# Altium schematic symbol library 常用集成电路.SchLib: 294 symbols (part 1 of 5)
Pins are listed as number, name and electrical type; pins without a type are passive.

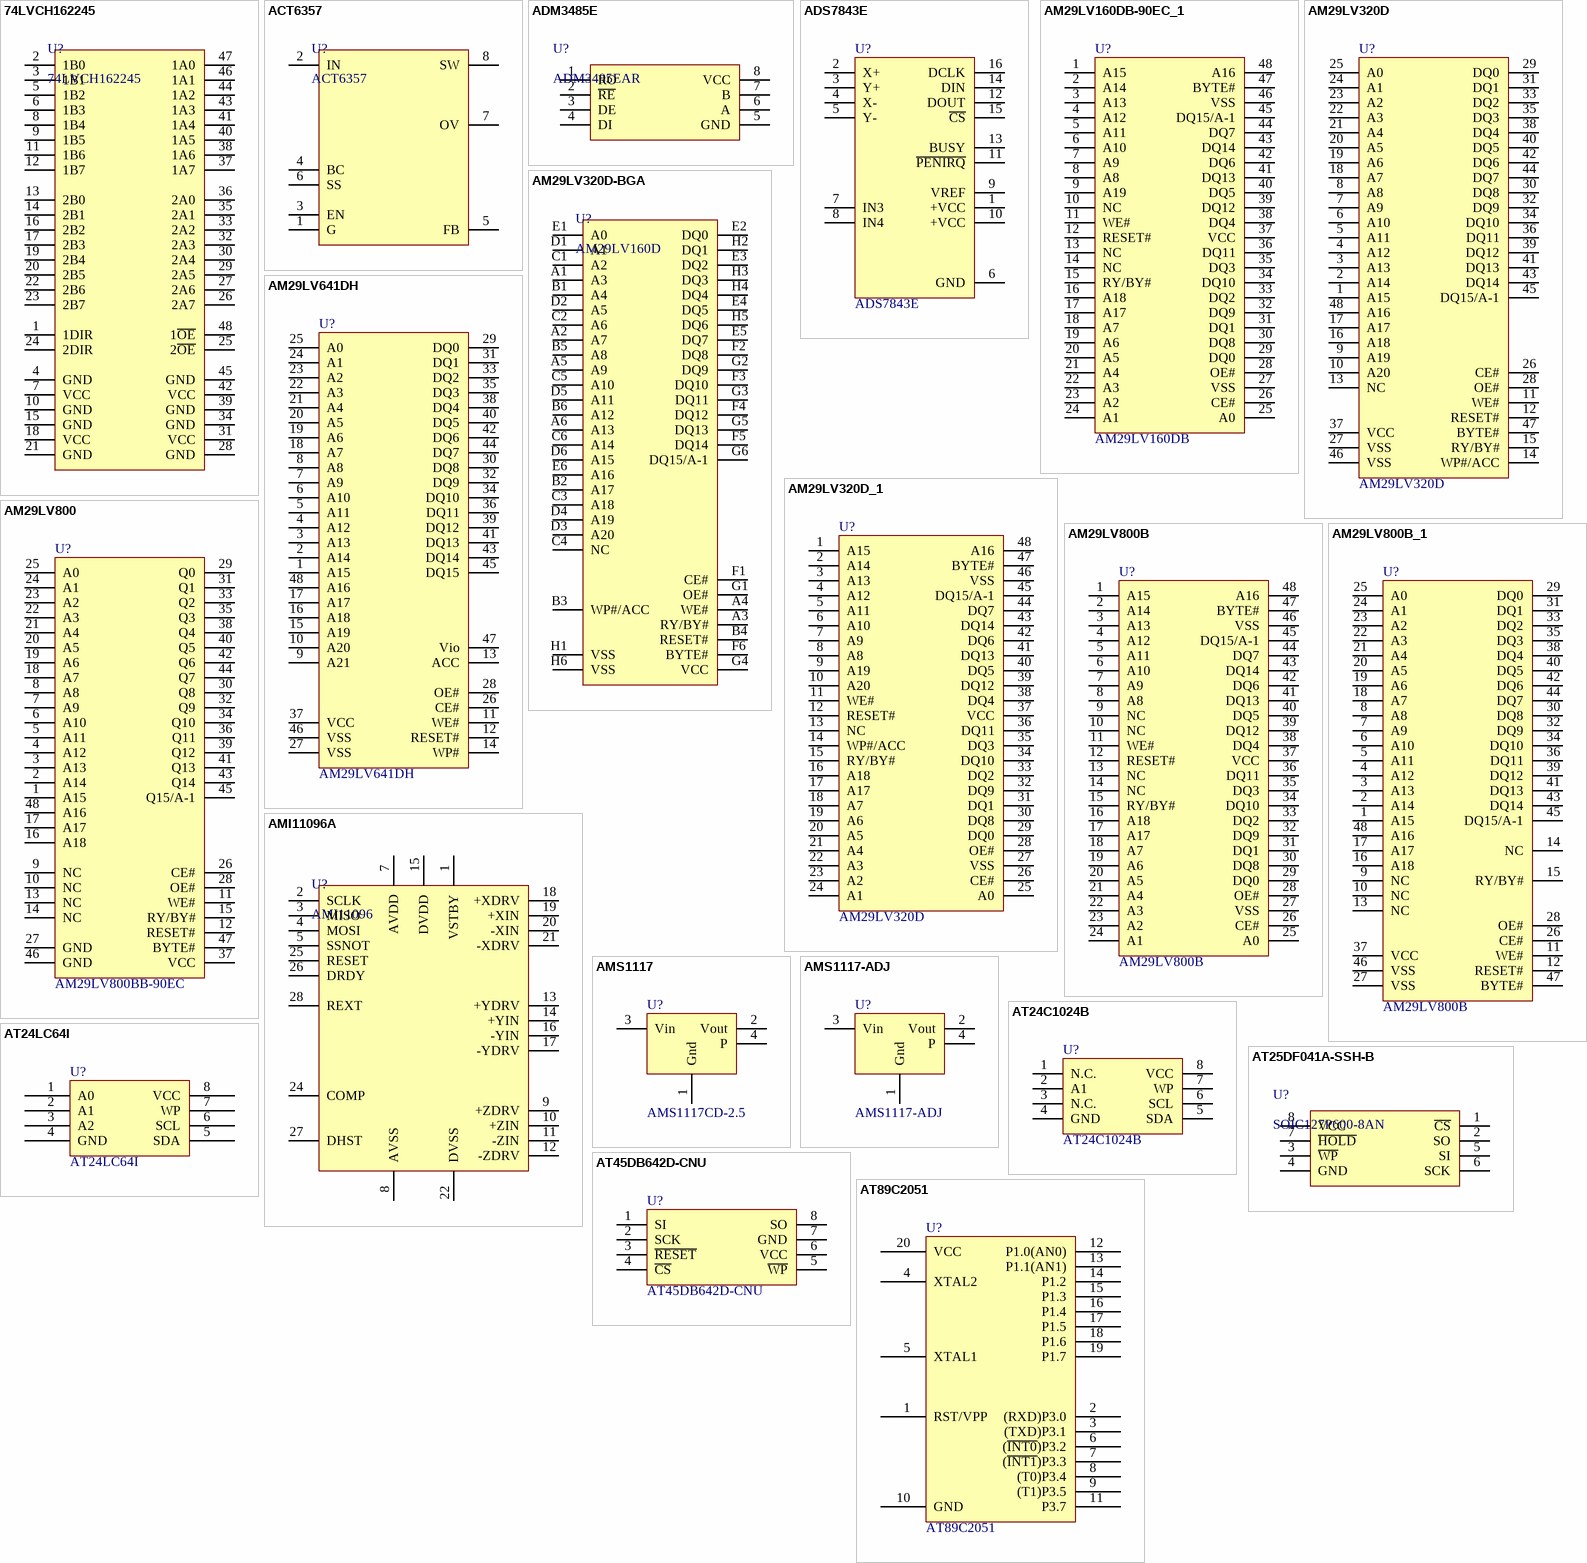
[diagram p0: symbols 74LVCH162245 to AT89C2051]

## 74LVCH162245
designator U?
数字电平转换
footprint TSSOP50P810-48AL (TSSOP, 48-Leads, Body 12.5x6.1mm, Pitch 0.5mm, IPC High Density)
pins: 1 1DIR, 2 1B0, 3 1B1, 4 GND, 5 1B2, 6 1B3, 7 VCC, 8 1B4, 9 1B5, 10 GND, 11 1B6, 12 1B7, 13 2B0, 14 2B1, 15 GND, 16 2B2, 17 2B3, 18 VCC, 19 2B4, 20 2B5, 21 GND, 22 2B6, 23 2B7, 24 2DIR, 25 2~{OE}, 26 2A7, 27 2A6, 28 GND, 29 2A5, 30 2A4, 31 VCC, 32 2A3, 33 2A2, 34 GND, 35 2A1, 36 2A0, 37 1A7, 38 1A6, 39 GND, 40 1A5, 41 1A4, 42 VCC, 43 1A3, 44 1A2, 45 GND, 46 1A1, 47 1A0, 48 1~{OE}

## ACT6357
designator U?
ACT6357, ACT6358 0.5A/1A 液晶屏升压器件
footprint SON65P300X300X80-8WN (SON, 8-Leads, Body 3x3 mm, Pitch 0.65mm, IPC Medium Density)
pins: 1 G "裸焊盘", 2 IN "裸焊盘", 3 EN "裸焊盘", 4 BC "裸焊盘", 5 FB "裸焊盘", 6 SS "裸焊盘", 7 OV "裸焊盘", 8 SW "裸焊盘"

## ADM3485E
designator U?, comment ADM3485EAR
3.3V 半双工RS485/RS422
footprint SOIC127P600-8AN (SOIC, 8-Leads, Body 4.9x3.9mm, Pitch 1.27mm, IPC Medium Density)
pins: 1 RO, 2 ~{RE}, 3 DE, 4 DI, 5 GND, 6 A, 7 B, 8 VCC

## ADS7843E
designator U?
触摸屏IC
footprint TSOP65P640-16AN (TSOP, 16-Leads, Body 5x4.4mm, Pitch 0.65mm, IPC Medium Density)
pins: 1 +VCC, 2 X+, 3 Y+, 4 X-, 5 Y-, 6 GND, 7 IN3, 8 IN4, 9 VREF, 10 +VCC, 11 ~{PENIRQ}, 12 DOUT, 13 BUSY, 14 DIN, 15 ~{CS}, 16 DCLK

## AM29LV160DB-90EC_1
designator U?, comment AM29LV160DB
footprint TSSOP50P2000-48L (TSSOP, 48-Leads, Body 12x18.4mm, Pitch 0.5mm, IPC High Density)
pins: 1 A15, 2 A14, 3 A13, 4 A12, 5 A11, 6 A10, 7 A9, 8 A8, 9 A19, 10 NC, 11 WE#, 12 RESET#, 13 NC, 14 NC, 15 RY/BY#, 16 A18, 17 A17, 18 A7, 19 A6, 20 A5, 21 A4, 22 A3, 23 A2, 24 A1, 25 A0, 26 CE#, 27 VSS, 28 OE#, 29 DQ0, 30 DQ8, 31 DQ1, 32 DQ9, 33 DQ2, 34 DQ10, 35 DQ3, 36 DQ11, 37 VCC, 38 DQ4, 39 DQ12, 40 DQ5, 41 DQ13, 42 DQ6, 43 DQ14, 44 DQ7, 45 DQ15/A-1, 46 VSS, 47 BYTE#, 48 A16

## AM29LV320D
designator U?
footprint TSSOP50P2000-48L (TSSOP, 48-Leads, Body 12x18.4mm, Pitch 0.5mm, IPC High Density)
pins: 1 A15, 2 A14, 3 A13, 4 A12, 5 A11, 6 A10, 7 A9, 8 A8, 9 A19, 10 A20, 11 WE#, 12 RESET#, 13 NC, 14 WP#/ACC, 15 RY/BY#, 16 A18, 17 A17, 18 A7, 19 A6, 20 A5, 21 A4, 22 A3, 23 A2, 24 A1, 25 A0, 26 CE#, 27 VSS, 28 OE#, 29 DQ0, 30 DQ8, 31 DQ1, 32 DQ9, 33 DQ2, 34 DQ10, 35 DQ3, 36 DQ11, 37 VCC, 38 DQ4, 39 DQ12, 40 DQ5, 41 DQ13, 42 DQ6, 43 DQ14, 44 DQ7, 45 DQ15/A-1, 46 VSS, 47 BYTE#, 48 A16

## AM29LV320D-BGA
designator U?, comment AM29LV160D
footprint BGA80P8X9-48
pins: A1 A3, A2 A7, A3 RY/BY#, A4 WE#, A5 A9, A6 A13, B1 A4, B2 A17, B3 WP#/ACC, B4 RESET#, B5 A8, B6 A12, C1 A2, C2 A6, C3 A18, C4 NC, C5 A10, C6 A14, D1 A1, D2 A5, D3 A20, D4 A19, D5 A11, D6 A15, E1 A0, E2 DQ0, E3 DQ2, E4 DQ5, E5 DQ7, E6 A16, F1 CE#, F2 DQ8, F3 DQ10, F4 DQ12, F5 DQ14, F6 BYTE#, G1 OE#, G2 DQ9, G3 DQ11, G4 VCC, G5 DQ13, G6 DQ15/A-1, H1 VSS, H2 DQ1, H3 DQ3, H4 DQ4, H5 DQ6, H6 VSS

## AM29LV320D_1
designator U?, comment AM29LV320D
footprint TSSOP50P2000-48L (TSSOP, 48-Leads, Body 12x18.4mm, Pitch 0.5mm, IPC High Density)
pins: 1 A15, 2 A14, 3 A13, 4 A12, 5 A11, 6 A10, 7 A9, 8 A8, 9 A19, 10 A20, 11 WE#, 12 RESET#, 13 NC, 14 WP#/ACC, 15 RY/BY#, 16 A18, 17 A17, 18 A7, 19 A6, 20 A5, 21 A4, 22 A3, 23 A2, 24 A1, 25 A0, 26 CE#, 27 VSS, 28 OE#, 29 DQ0, 30 DQ8, 31 DQ1, 32 DQ9, 33 DQ2, 34 DQ10, 35 DQ3, 36 DQ11, 37 VCC, 38 DQ4, 39 DQ12, 40 DQ5, 41 DQ13, 42 DQ6, 43 DQ14, 44 DQ7, 45 DQ15/A-1, 46 VSS, 47 BYTE#, 48 A16

## AM29LV641DH
designator U?
footprint TSSOP50P2000-48L (TSSOP, 48-Leads, Body 12x18.4mm, Pitch 0.5mm, IPC High Density)
pins: 1 A15, 2 A14, 3 A13, 4 A12, 5 A11, 6 A10, 7 A9, 8 A8, 9 A21, 10 A20, 11 WE#, 12 RESET#, 13 ACC, 14 WP#, 15 A19, 16 A18, 17 A17, 18 A7, 19 A6, 20 A5, 21 A4, 22 A3, 23 A2, 24 A1, 25 A0, 26 CE#, 27 VSS, 28 OE#, 29 DQ0, 30 DQ8, 31 DQ1, 32 DQ9, 33 DQ2, 34 DQ10, 35 DQ3, 36 DQ11, 37 VCC, 38 DQ4, 39 DQ12, 40 DQ5, 41 DQ13, 42 DQ6, 43 DQ14, 44 DQ7, 45 DQ15, 46 VSS, 47 Vio, 48 A16

## AM29LV800
designator U?, comment AM29LV800BB-90EC
Flash Memory
footprint TSSOP50P2000-48L (TSSOP, 48-Leads, Body 12x18.4mm, Pitch 0.5mm, IPC High Density)
pins: 1 A15, 2 A14, 3 A13, 4 A12, 5 A11, 6 A10, 7 A9, 8 A8, 9 NC, 10 NC, 11 WE#, 12 RESET#, 13 NC, 14 NC, 15 RY/BY#, 16 A18, 17 A17, 18 A7, 19 A6, 20 A5, 21 A4, 22 A3, 23 A2, 24 A1, 25 A0, 26 CE#, 27 GND, 28 OE#, 29 Q0, 30 Q8, 31 Q1, 32 Q9, 33 Q2, 34 Q10, 35 Q3, 36 Q11, 37 VCC, 38 Q4, 39 Q12, 40 Q5, 41 Q13, 42 Q6, 43 Q14, 44 Q7, 45 Q15/A-1, 46 GND, 47 BYTE#, 48 A16

## AM29LV800B
designator U?
footprint TSSOP50P2000-48L (TSSOP, 48-Leads, Body 12x18.4mm, Pitch 0.5mm, IPC High Density)
pins: 1 A15, 2 A14, 3 A13, 4 A12, 5 A11, 6 A10, 7 A9, 8 A8, 9 NC, 10 NC, 11 WE#, 12 RESET#, 13 NC, 14 NC, 15 RY/BY#, 16 A18, 17 A17, 18 A7, 19 A6, 20 A5, 21 A4, 22 A3, 23 A2, 24 A1, 25 A0, 26 CE#, 27 VSS, 28 OE#, 29 DQ0, 30 DQ8, 31 DQ1, 32 DQ9, 33 DQ2, 34 DQ10, 35 DQ3, 36 DQ11, 37 VCC, 38 DQ4, 39 DQ12, 40 DQ5, 41 DQ13, 42 DQ6, 43 DQ14, 44 DQ7, 45 DQ15/A-1, 46 VSS, 47 BYTE#, 48 A16

## AM29LV800B_1
designator U?, comment AM29LV800B
footprint TSSOP50P2000-48L (TSSOP, 48-Leads, Body 12x18.4mm, Pitch 0.5mm, IPC High Density)
pins: 1 A15, 2 A14, 3 A13, 4 A12, 5 A11, 6 A10, 7 A9, 8 A8, 9 NC, 10 NC, 11 WE#, 12 RESET#, 13 NC, 14 NC, 15 RY/BY#, 16 A18, 17 A17, 18 A7, 19 A6, 20 A5, 21 A4, 22 A3, 23 A2, 24 A1, 25 A0, 26 CE#, 27 VSS, 28 OE#, 29 DQ0, 30 DQ8, 31 DQ1, 32 DQ9, 33 DQ2, 34 DQ10, 35 DQ3, 36 DQ11, 37 VCC, 38 DQ4, 39 DQ12, 40 DQ5, 41 DQ13, 42 DQ6, 43 DQ14, 44 DQ7, 45 DQ15/A-1, 46 VSS, 47 BYTE#, 48 A16

## AMI11096A
designator U?, comment AMI11096
X,Y,Z
footprint SOP127P1207-28N (SOP, 28-Leads, Body 18.1x8.6mm, Pitch 1.27mm, IPC Medium Density)
pins: 1 VSTBY, 2 SCLK, 3 MISO, 4 MOSI, 5 SSNOT, 6 NC hidden to GND, 7 AVDD, 8 AVSS, 9 +ZDRV, 10 +ZIN, 11 -ZIN, 12 -ZDRV, 13 +YDRV, 14 +YIN, 15 DVDD, 16 -YIN, 17 -YDRV, 18 +XDRV, 19 +XIN, 20 -XIN, 21 -XDRV, 22 DVSS, 23 NC hidden to GND, 24 COMP, 25 RESET, 26 DRDY, 27 DHST, 28 REXT

## AMS1117
designator U?, comment AMS1117CD-2.5
footprint SOT223 (SOT-223/SC-73; 4 Leads; Body 6.7 x 7.3 mm, inc. leads (LxW max))
pins: 1 Gnd, 2 Vout, 3 Vin, 4 P

## AMS1117-ADJ
designator U?
footprint SOT223 (SOT-223/SC-73; 4 Leads; Body 6.7 x 7.3 mm, inc. leads (LxW max))
pins: 1 Gnd, 2 Vout, 3 Vin, 4 P

## AT24C1024B
designator U?
pins: 1 N.C., 2 A1, 3 N.C., 4 GND, 5 SDA, 6 SCL, 7 WP, 8 VCC

## AT24LC64I
designator U?
IIC总线存储器
footprint SOIC127P600-8AN (SOIC, 8-Leads, Body 4.9x3.9mm, Pitch 1.27mm, IPC Medium Density)
pins: 1 A0, 2 A1, 3 A2, 4 GND, 5 SDA, 6 SCL, 7 WP, 8 VCC

## AT25DF041A-SSH-B
designator U?, comment SOIC127P600-8AN
SPI Flash
footprint SOIC127P600-8AN (SOIC, 8-Leads, Body 4.9x3.9mm, Pitch 1.27mm, IPC Medium Density)
pins: 1 ~{CS}, 2 SO, 3 ~{WP}, 4 GND, 5 SI, 6 SCK, 7 ~{HOLD}, 8 VCC

## AT45DB642D-CNU
designator U?
64 Mb Serial DataFlash
pins: 1 SI, 2 SCK, 3 ~{RESET}, 4 ~{CS}, 5 ~{WP}, 6 VCC, 7 GND, 8 SO

## AT89C2051
designator U?
footprint DIP-20
pins: 1 RST/VPP, 2 (RXD)P3.0, 3 (TXD)P3.1, 4 XTAL2, 5 XTAL1, 6 (~{INT0})P3.2, 7 (~{INT1})P3.3, 8 (T0)P3.4, 9 (T1)P3.5, 10 GND, 11 P3.7, 12 P1.0(AN0), 13 P1.1(AN1), 14 P1.2, 15 P1.3, 16 P1.4, 17 P1.5, 18 P1.6, 19 P1.7, 20 VCC
1 alternate drawing of the same symbol

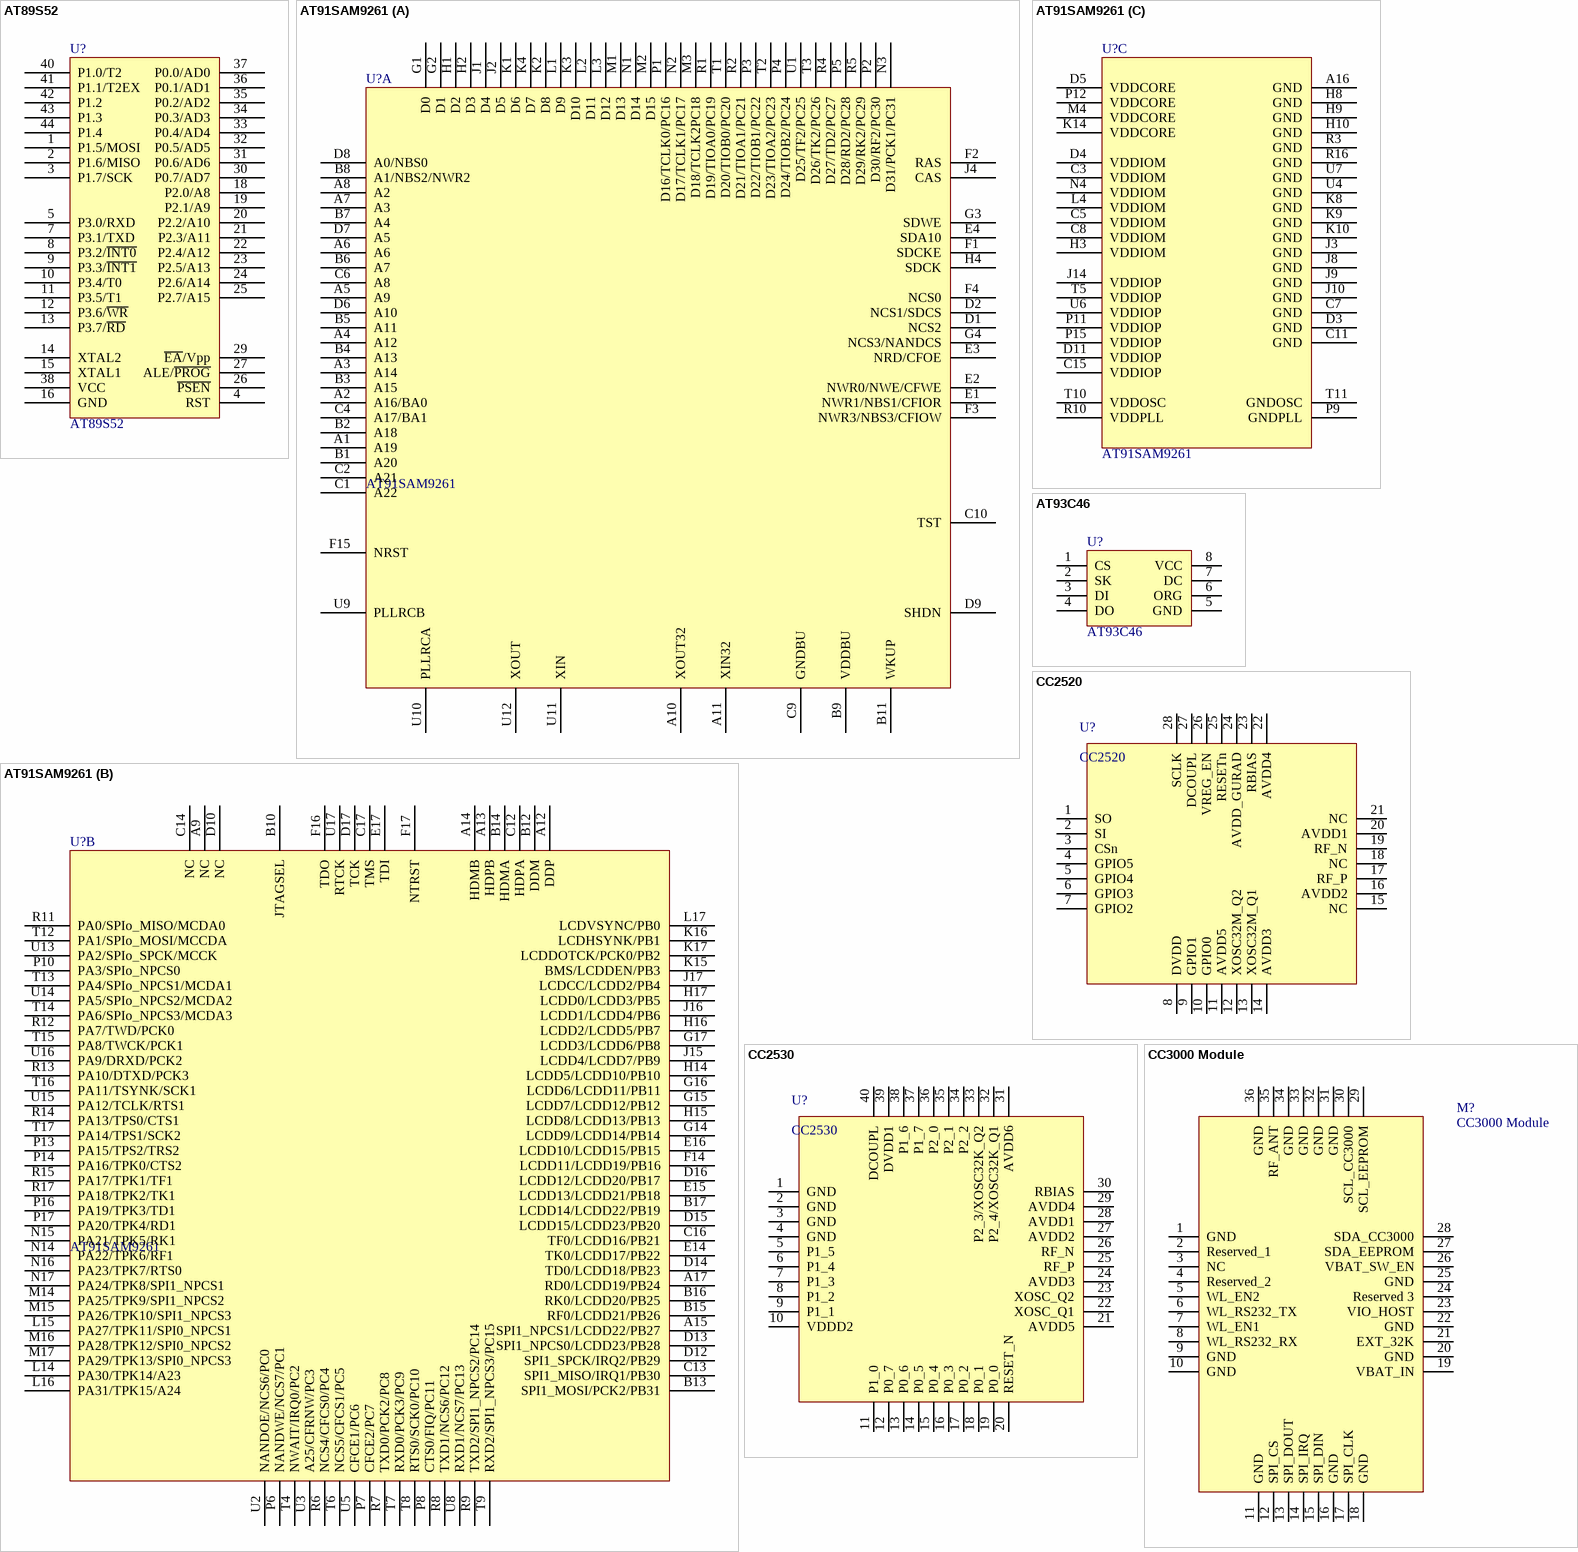
[diagram p1: symbols AT89S52 to CC3000 Module]

## AT89S52
designator U?
footprint TQFP80P1200X1200-44L (Thin QFP, 44-Leads, Body 10x10mm, Pitch 0.8mm, IPC High Density)
pins: 1 P1.5/MOSI, 2 P1.6/MISO, 3 P1.7/SCK, 4 RST, 5 P3.0/RXD, 6 NC hidden, 7 P3.1/TXD, 8 P3.2/~{INT0}, 9 P3.3/~{INT1}, 10 P3.4/T0, 11 P3.5/T1, 12 P3.6/~{WR}, 13 P3.7/~{RD}, 14 XTAL2, 15 XTAL1, 16 GND, 17 NC hidden, 18 P2.0/A8, 19 P2.1/A9, 20 P2.2/A10, 21 P2.3/A11, 22 P2.4/A12, 23 P2.5/A13, 24 P2.6/A14, 25 P2.7/A15, 26 ~{PSEN}, 27 ALE/~{PROG}, 28 NC hidden, 29 ~{EA}/Vpp, 30 P0.7/AD7, 31 P0.6/AD6, 32 P0.5/AD5, 33 P0.4/AD4, 34 P0.3/AD3, 35 P0.2/AD2, 36 P0.1/AD1, 37 P0.0/AD0, 38 VCC, 39 NC hidden, 40 P1.0/T2, 41 P1.1/T2EX, 42 P1.2, 43 P1.3, 44 P1.4

## AT91SAM9261
designator U?
ARM9内核处理器
footprint BGA80P17X17-217 (208-Ball Ball Grid Array 0.8 mm Pitch)
part A pins: A1 A19, A2 A16/BA0, A3 A14, A4 A12, A5 A9, A6, A7 A3, A8 A2, A10 XOUT32, A11 XIN32, B1 A20, B2 A18, B3 A15, B4 A13, B5 A11, B6 A7, B7 A4, B8 A1/NBS2/NWR2, B9 VDDBU, B11 WKUP, C1 A22, C2 A21, C4 A17/BA1, C6 A8, C9 GNDBU, C10 TST, D1 NCS2, D2 NCS1/SDCS, D6 A10, D7 A5, D8 A0/NBS0, D9 SHDN, E1 NWR1/NBS1/CFIOR, E2 NWR0/NWE/CFWE, E3 NRD/CFOE, E4 SDA10, F1 SDCKE, F2 RAS, F3 NWR3/NBS3/CFIOW, F4 NCS0, F15 NRST, G1 D0, G2 D1, G3 SDWE, G4 NCS3/NANDCS, H1 D2, H2 D3, H4 SDCK, J1 D4, J2 D5, J4 CAS, K1 D6, K2 D8, K3 D10, K4 D7, L1 D9, L2 D11, L3 D12, M1 D13, M2 D15, M3 D18/TCLK2PC18, N1 D14, N2 D17/TCLK1/PC17, N3 D31/PCK1/PC31, P1 D16/TCLK0/PC16, P2 D30/RF2/PC30, P3 D22/TIOB1/PC22, P4 D24/TIOB2/PC24, P5 D28/RD2/PC28, R1 D19/TIOA0/PC19, R2 D21/TIOA1/PC21, R4 D27/TD2/PC27, R5 D29/RK2/PC29, T1 D20/TIOB0/PC20, T2 D23/TIOA2/PC23, T3 D26/TK2/PC26, U1 D25/TF2/PC25, U9 PLLRCB, U10 PLLRCA, U11 XIN, U12 XOUT
part B pins: A9 NC, A12 DDP, A13 HDPB, A14 HDMB, A15 SPI1_NPCS1/LCDD22/PB27, A17 RD0/LCDD19/PB24, B10 JTAGSEL, B12 DDM, B13 SPI1_MOSI/PCK2/PB31, B14 HDMA, B15 RF0/LCDD21/PB26, B16 RK0/LCDD20/PB25, B17 LCDD14/LCDD22/PB19, C12 HDPA, C13 SPI1_MISO/IRQ1/PB30, C14 NC, C16 TF0/LCDD16/PB21, C17 TMS, D10 NC, D12 SPI1_SPCK/IRQ2/PB29, D13 SPI1_NPCS0/LCDD23/PB28, D14 TD0/LCDD18/PB23, D15 LCDD15/LCDD23/PB20, D16 LCDD12/LCDD20/PB17, D17 TCK, E14 TK0/LCDD17/PB22, E15 LCDD13/LCDD21/PB18, E16 LCDD10/LCDD15/PB15, E17 TDI, F14 LCDD11/LCDD19/PB16, F16 TDO, F17 NTRST, G14 LCDD9/LCDD14/PB14, G15 LCDD7/LCDD12/PB12, G16 LCDD6/LCDD11/PB11, G17 LCDD3/LCDD6/PB8, H14 LCDD5/LCDD10/PB10, H15 LCDD8/LCDD13/PB13, H16 LCDD2/LCDD5/PB7, H17 LCDD0/LCDD3/PB5, J15 LCDD4/LCDD7/PB9, J16 LCDD1/LCDD4/PB6, J17 LCDCC/LCDD2/PB4, K15 BMS/LCDDEN/PB3, K16 LCDHSYNK/PB1, K17 LCDDOTCK/PCK0/PB2, L14 PA30/TPK14/A23, L15 PA27/TPK11/SPI0_NPCS1, L16 PA31/TPK15/A24, L17 LCDVSYNC/PB0, M14 PA25/TPK9/SPI1_NPCS2, M15 PA26/TPK10/SPI1_NPCS3, M16 PA28/TPK12/SPI0_NPCS2, M17 PA29/TPK13/SPI0_NPCS3, N14 PA22/TPK6/RF1, N15 PA21/TPK5/RK1, N16 PA23/TPK7/RTS0, N17 PA24/TPK8/SPI1_NPCS1, P6 NANDWE/NCS7/PC1, P7 CFCE2/PC7, P8 CTS0/FIQ/PC11, P10 PA3/SPIo_NPCS0, P13 PA15/TPS2/TRS2, P14 PA16/TPK0/CTS2, P16 PA19/TPK3/TD1, P17 PA20/TPK4/RD1, R6 NCS4/CFCS0/PC4, R7 TXD0/PCK2/PC8, R8 TXD1/NCS6/PC12, R9 TXD2/SPI1_NPCS2/PC14, R11 PA0/SPIo_MISO/MCDA0, R12 PA7/TWD/PCK0, R13 PA10/DTXD/PCK3, R14 PA13/TPS0/CTS1, R15 PA17/TPK1/TF1, R17 PA18/TPK2/TK1, T4 NWAIT/IRQ0/PC2, T6 NCS5/CFCS1/PC5, T7 RXD0/PCK3/PC9, T8 RTS0/SCK0/PC10, T9 RXD2/SPI1_NPCS3/PC15, T12 PA1/SPIo_MOSI/MCCDA, T13 PA4/SPIo_NPCS1/MCDA1, T14 PA6/SPIo_NPCS3/MCDA3, T15 PA8/TWCK/PCK1, T16 PA11/TSYNK/SCK1, T17 PA14/TPS1/SCK2, U2 NANDOE/NCS6/PC0, U3 A25/CFRNW/PC3, U5 CFCE1/PC6, U8 RXD1/NCS7/PC13, U13 PA2/SPIo_SPCK/MCCK, U14 PA5/SPIo_NPCS2/MCDA2, U15 PA12/TCLK/RTS1, U16 PA9/DRXD/PCK2, U17 RTCK
part C pins: A16 GND, C3 VDDIOM, C5 VDDIOM, C7 GND, C8 VDDIOM, C11 GND, C15 VDDIOP, D3 GND, D4 VDDIOM, D5 VDDCORE, D11 VDDIOP, H3 VDDIOM, H8 GND, H9 GND, H10 GND, J3 GND, J8 GND, J9 GND, J10 GND, J14 VDDIOP, K8 GND, K9 GND, K10 GND, K14 VDDCORE, L4 VDDIOM, M4 VDDCORE, N4 VDDIOM, P9 GNDPLL, P11 VDDIOP, P12 VDDCORE, P15 VDDIOP, R3 GND, R10 VDDPLL, R16 GND, T5 VDDIOP, T10 VDDOSC, T11 GNDOSC, U4 GND, U6 VDDIOP, U7 GND

## AT93C46
designator U?
记忆存储器; Package Information: Latest Revision: Jun-1998; Note: Do Not Use pin number 7 (DU).; Published: 24-Aug-2001; Revision: 17-Jul-2002: Re-released for DXP Platform.; Datasheet: Latest Revision: Feb-1999; Package Reference: PSDIP8A; Publisher: Altium Limited
footprint SOIC127P600-8AN (SOIC, 8-Leads, Body 4.9x3.9mm, Pitch 1.27mm, IPC Medium Density)
pins: 1 CS, 2 SK, 3 DI, 4 DO, 5 GND, 6 ORG, 7 DC, 8 VCC

## CC2520
designator U?
ZIBGEE
footprint QFN50P500X500-28V1L (QFN, 28-Leads, Body 5x5mm, Pitch 0.5mm, IPC High Density)
pins: 1 SO, 2 SI, 3 CSn, 4 GPIO5, 5 GPIO4, 6 GPIO3, 7 GPIO2, 8 DVDD, 9 GPIO1, 10 GPIO0, 11 AVDD5, 12 XOSC32M_Q2, 13 XOSC32M_Q1, 14 AVDD3, 15 NC, 16 AVDD2, 17 RF_P, 18 NC, 19 RF_N, 20 AVDD1, 21 NC, 22 AVDD4, 23 RBIAS, 24 AVDD_GURAD, 25 RESETn, 26 VREG_EN, 27 DCOUPL, 28 SCLK

## CC2530
designator U?
ZigBee无线收发模块
footprint QFN50P600X600-40VL (Footprint not found)
pins: 1 GND, 2 GND, 3 GND, 4 GND, 5 P1_5, 6 P1_4, 7 P1_3, 8 P1_2, 9 P1_1, 10 VDDD2, 11 P1_0, 12 P0_7, 13 P0_6, 14 P0_5, 15 P0_4, 16 P0_3, 17 P0_2, 18 P0_1, 19 P0_0, 20 RESET_N, 21 AVDD5, 22 XOSC_Q1, 23 XOSC_Q2, 24 AVDD3, 25 RF_P, 26 RF_N, 27 AVDD2, 28 AVDD1, 29 AVDD4, 30 RBIAS, 31 AVDD6, 32 P2_4/XOSC32K_Q1, 33 P2_3/XOSC32K_Q2, 34 P2_2, 35 P2_1, 36 P2_0, 37 P1_7, 38 P1_6, 39 DVDD1, 40 DCOUPL, 41 GND hidden to GND

## CC3000 Module
designator M?
WIFI MODULE
footprint CC3000 MODULE (WIFI MODULE)
pins: 1 GND, 2 Reserved_1, 3 NC, 4 Reserved_2, 5 WL_EN2, 6 WL_RS232_TX, 7 WL_EN1, 8 WL_RS232_RX, 9 GND, 10 GND, 11 GND, 12 SPI_CS, 13 SPI_DOUT, 14 SPI_IRQ, 15 SPI_DIN, 16 GND, 17 SPI_CLK, 18 GND, 19 VBAT_IN, 20 GND, 21 EXT_32K, 22 GND, 23 VIO_HOST, 24 Reserved 3, 25 GND, 26 VBAT_SW_EN, 27 SDA_EEPROM, 28 SDA_CC3000, 29 SCL_EEPROM, 30 SCL_CC3000, 31 GND, 32 GND, 33 GND, 34 GND, 35 RF_ANT, 36 GND, 37 GND hidden to GND, 38 GND hidden to GND, 39 GND hidden to GND, 40 GND hidden to GND, 41 GND hidden to GND, 42 GND hidden to GND, 43 GND hidden to GND, 44 GND hidden to GND, 45 GND hidden to GND, 46 GND hidden to GND

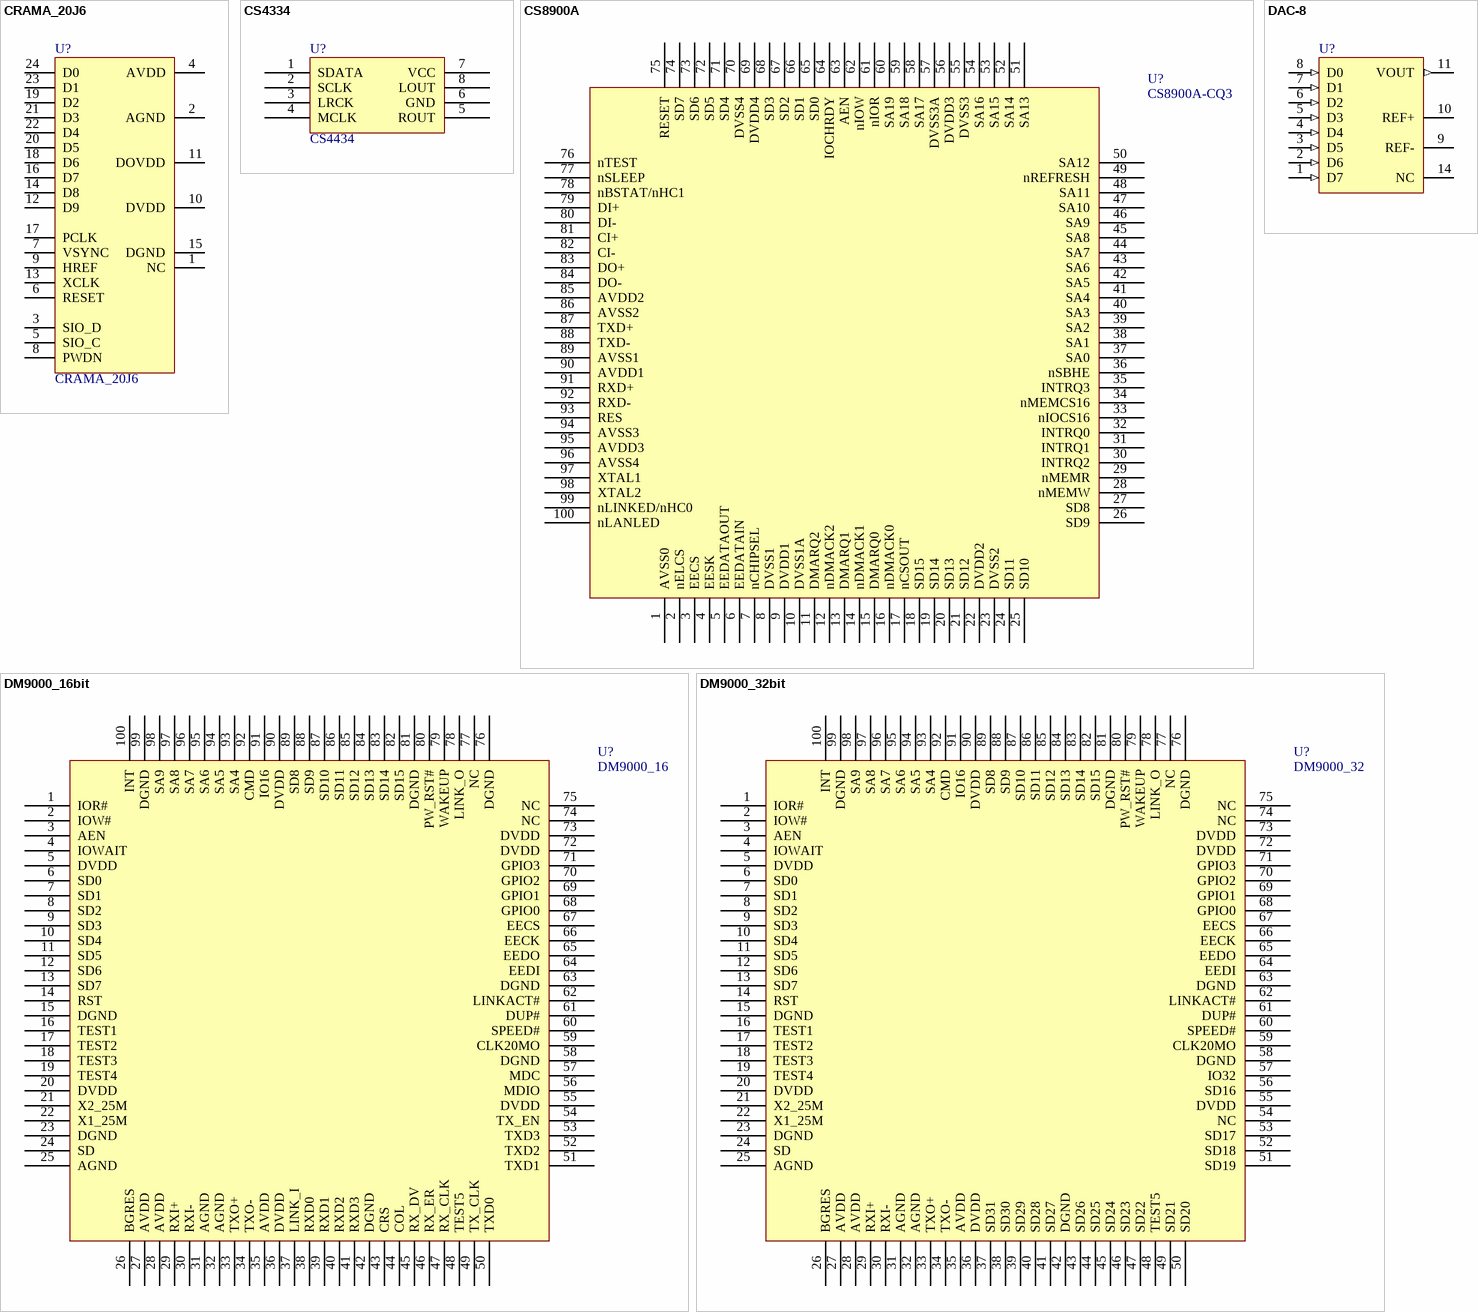
[diagram p2: symbols CRAMA_20J6 to DM9000_32bit]

## CRAMA_20J6
designator U?
OV9650 CMOS CCD 摄像头,1300 x 1028 pixels.
footprint FFC/SM0.5-2H24 (Connector; FH12 Series; 24 Position; 0.5mm Spaced Bottom Contact)
footprint FFC/SM0.5-2H24A (Connector; FH12 Series; 24 Position; 0.5mm Spaced Top Contact)
pins: 1 NC, 2 AGND, 3 SIO_D, 4 AVDD, 5 SIO_C, 6 RESET, 7 VSYNC, 8 PWDN, 9 HREF, 10 DVDD, 11 DOVDD, 12 D9, 13 XCLK, 14 D8, 15 DGND, 16 D7, 17 PCLK, 18 D6, 19 D2, 20 D5, 21 D3, 22 D4, 23 D1, 24 D0

## CS4334
designator U?, comment CS4434
Integrated Circuit
footprint SOIC127P600-8AN (SOIC, 8-Leads, Body 4.9x3.9mm, Pitch 1.27mm, IPC Medium Density)
pins: 1 SDATA, 2 SCLK, 3 LRCK, 4 MCLK, 5 ROUT, 6 GND, 7 VCC, 8 LOUT

## CS8900A
designator U?, comment CS8900A-CQ3
Text Field1: 340; Text Field2: 340
footprint TSQFP50P1600X1600-100L (Thin QFP, 100-Leads, Body 14x14mm, Pitch 0.5mm, IPC High Density)
pins: 1 AVSS0, 2 nELCS, 3 EECS, 4 EESK, 5 EEDATAOUT, 6 EEDATAIN, 7 nCHIPSEL, 8 DVSS1, 9 DVDD1, 10 DVSS1A, 11 DMARQ2, 12 nDMACK2, 13 DMARQ1, 14 nDMACK1, 15 DMARQ0, 16 nDMACK0, 17 nCSOUT, 18 SD15, 19 SD14, 20 SD13, 21 SD12, 22 DVDD2, 23 DVSS2, 24 SD11, 25 SD10, 26 SD9, 27 SD8, 28 nMEMW, 29 nMEMR, 30 INTRQ2, 31 INTRQ1, 32 INTRQ0, 33 nIOCS16, 34 nMEMCS16, 35 INTRQ3, 36 nSBHE, 37 SA0, 38 SA1, 39 SA2, 40 SA3, 41 SA4, 42 SA5, 43 SA6, 44 SA7, 45 SA8, 46 SA9, 47 SA10, 48 SA11, 49 nREFRESH, 50 SA12, 51 SA13, 52 SA14, 53 SA15, 54 SA16, 55 DVSS3, 56 DVDD3, 57 DVSS3A, 58 SA17, 59 SA18, 60 SA19, 61 nIOR, 62 nIOW, 63 AEN, 64 IOCHRDY, 65 SD0, 66 SD1, 67 SD2, 68 SD3, 69 DVDD4, 70 DVSS4, 71 SD4, 72 SD5, 73 SD6, 74 SD7, 75 RESET, 76 nTEST, 77 nSLEEP, 78 nBSTAT/nHC1, 79 DI+, 80 DI-, 81 CI+, 82 CI-, 83 DO+, 84 DO-, 85 AVDD2, 86 AVSS2, 87 TXD+, 88 TXD-, 89 AVSS1, 90 AVDD1, 91 RXD+, 92 RXD-, 93 RES, 94 AVSS3, 95 AVDD3, 96 AVSS4, 97 XTAL1, 98 XTAL2, 99 nLINKED/nHC0, 100 nLANLED

## DAC-8
designator U?
Generic 8-Bit D/A Converter; Published: 8-Jun-2000; LatestRevisionDate: 16-Dec-2005; LatestRevisionNote: Hidden power pin's "Connect To" field completed.; PackageDocument: Mar-2002; PackageReference: SOT402-1; Publisher: Altium Limited; Code_JEDEC: MO-153-AB-1
footprint SOT402-1 (Shrink Small Outline; 14 Leads; Body Width 4.4 mm; Pitch 0.65 mm)
simulation model DAC8 (SIMCODE)
pins: 1 D7 (in), 2 D6 (in), 3 D5 (in), 4 D4 (in), 5 D3 (in), 6 D2 (in), 7 D1 (in), 8 D0 (in), 9 REF-, 10 REF+, 11 VOUT (out), 12 GND (power) hidden to GND, 13 VCC (power) hidden to VCC, 14 NC

## DM9000_16bit
designator U?, comment DM9000_16
footprint TSQFP50P1600X1600-100L (Thin QFP, 100-Leads, Body 14x14mm, Pitch 0.5mm, IPC High Density)
pins: 1 IOR# (power), 2 IOW# (power), 3 AEN (power), 4 IOWAIT (power), 5 DVDD (power), 6 SD0 (power), 7 SD1 (power), 8 SD2 (power), 9 SD3 (power), 10 SD4 (power), 11 SD5 (power), 12 SD6 (power), 13 SD7 (power), 14 RST (power), 15 DGND (power), 16 TEST1 (power), 17 TEST2 (power), 18 TEST3 (power), 19 TEST4 (power), 20 DVDD (power), 21 X2_25M (power), 22 X1_25M (power), 23 DGND (power), 24 SD (power), 25 AGND (power), 26 BGRES (power), 27 AVDD (power), 28 AVDD (power), 29 RXI+ (power), 30 RXI- (power), 31 AGND (power), 32 AGND (power), 33 TXO+ (power), 34 TXO- (power), 35 AVDD (power), 36 DVDD (power), 37 LINK_I (power), 38 RXD0 (power), 39 RXD1 (power), 40 RXD2 (power), 41 RXD3 (power), 42 DGND (power), 43 CRS (power), 44 COL (power), 45 RX_DV (power), 46 RX_ER (power), 47 RX_CLK (power), 48 TEST5 (power), 49 TX_CLK (power), 50 TXD0 (power), 51 TXD1 (power), 52 TXD2 (power), 53 TXD3 (power), 54 TX_EN (power), 55 DVDD (power), 56 MDIO (power), 57 MDC (power), 58 DGND (power), 59 CLK20MO (power), 60 SPEED# (power), 61 DUP# (power), 62 LINKACT# (power), 63 DGND (power), 64 EEDI (power), 65 EEDO (power), 66 EECK (power), 67 EECS (power), 68 GPIO0 (power), 69 GPIO1 (power), 70 GPIO2 (power), 71 GPIO3 (power), 72 DVDD (power), 73 DVDD (power), 74 NC (power), 75 NC (power), 76 DGND (power), 77 NC (power), 78 LINK_O (power), 79 WAKEUP (power), 80 PW_RST# (power), 81 DGND (power), 82 SD15 (power), 83 SD14 (power), 84 SD13 (power), 85 SD12 (power), 86 SD11 (power), 87 SD10 (power), 88 SD9 (power), 89 SD8 (power), 90 DVDD (power), 91 IO16 (power), 92 CMD (power), 93 SA4 (power), 94 SA5 (power), 95 SA6 (power), 96 SA7 (power), 97 SA8 (power), 98 SA9 (power), 99 DGND (power), 100 INT (power)

## DM9000_32bit
designator U?, comment DM9000_32
footprint TSQFP50P1600X1600-100L (Thin QFP, 100-Leads, Body 14x14mm, Pitch 0.5mm, IPC High Density)
pins: 1 IOR# (power), 2 IOW# (power), 3 AEN (power), 4 IOWAIT (power), 5 DVDD (power), 6 SD0 (power), 7 SD1 (power), 8 SD2 (power), 9 SD3 (power), 10 SD4 (power), 11 SD5 (power), 12 SD6 (power), 13 SD7 (power), 14 RST (power), 15 DGND (power), 16 TEST1 (power), 17 TEST2 (power), 18 TEST3 (power), 19 TEST4 (power), 20 DVDD (power), 21 X2_25M (power), 22 X1_25M (power), 23 DGND (power), 24 SD (power), 25 AGND (power), 26 BGRES (power), 27 AVDD (power), 28 AVDD (power), 29 RXI+ (power), 30 RXI- (power), 31 AGND (power), 32 AGND (power), 33 TXO+ (power), 34 TXO- (power), 35 AVDD (power), 36 DVDD (power), 37 SD31 (power), 38 SD30 (power), 39 SD29 (power), 40 SD28 (power), 41 SD27 (power), 42 DGND (power), 43 SD26 (power), 44 SD25 (power), 45 SD24 (power), 46 SD23 (power), 47 SD22 (power), 48 TEST5 (power), 49 SD21 (power), 50 SD20 (power), 51 SD19 (power), 52 SD18 (power), 53 SD17 (power), 54 NC (power), 55 DVDD (power), 56 SD16 (power), 57 IO32 (power), 58 DGND (power), 59 CLK20MO (power), 60 SPEED# (power), 61 DUP# (power), 62 LINKACT# (power), 63 DGND (power), 64 EEDI (power), 65 EEDO (power), 66 EECK (power), 67 EECS (power), 68 GPIO0 (power), 69 GPIO1 (power), 70 GPIO2 (power), 71 GPIO3 (power), 72 DVDD (power), 73 DVDD (power), 74 NC (power), 75 NC (power), 76 DGND (power), 77 NC (power), 78 LINK_O (power), 79 WAKEUP (power), 80 PW_RST# (power), 81 DGND (power), 82 SD15 (power), 83 SD14 (power), 84 SD13 (power), 85 SD12 (power), 86 SD11 (power), 87 SD10 (power), 88 SD9 (power), 89 SD8 (power), 90 DVDD (power), 91 IO16 (power), 92 CMD (power), 93 SA4 (power), 94 SA5 (power), 95 SA6 (power), 96 SA7 (power), 97 SA8 (power), 98 SA9 (power), 99 DGND (power), 100 INT (power)

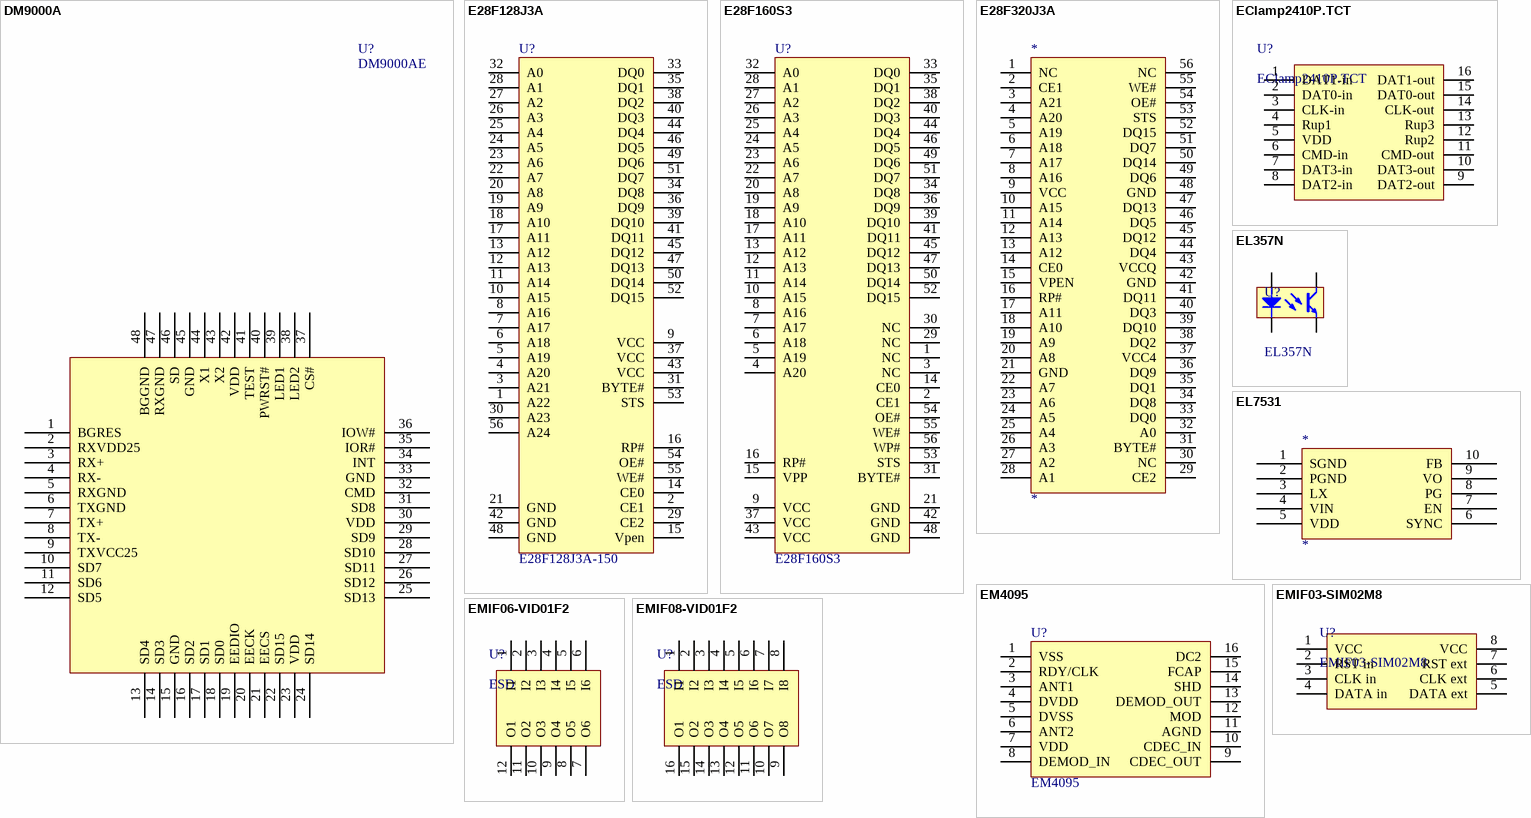
[diagram p3: symbols DM9000A to EMIF08-VID01F2]

## DM9000A
designator U?, comment DM9000AE
footprint TSQFP50P900X900-48L (Thin QFP, 48-Leads, Body 7x7mm, Pitch 0.5mm, IPC High Density)
pins: 1 BGRES, 2 RXVDD25, 3 RX+, 4 RX-, 5 RXGND, 6 TXGND, 7 TX+, 8 TX-, 9 TXVCC25, 10 SD7, 11 SD6, 12 SD5, 13 SD4, 14 SD3, 15 GND, 16 SD2, 17 SD1, 18 SD0, 19 EEDIO, 20 EECK, 21 EECS, 22 SD15, 23 VDD, 24 SD14, 25 SD13, 26 SD12, 27 SD11, 28 SD10, 29 SD9, 30 VDD, 31 SD8, 32 CMD, 33 GND, 34 INT, 35 IOR#, 36 IOW#, 37 CS#, 38 LED2, 39 LED1, 40 PWRST#, 41 TEST, 42 VDD, 43 X2, 44 X1, 45 GND, 46 SD, 47 RXGND, 48 BGGND

## E28F128J3A
designator U?, comment E28F128J3A-150
footprint TSSOP50P2000-56L (TSSOP, 56-Leads, Body 14x18.4mm, Pitch 0.5mm, IPC High Density)
pins: 1 A22, 2 CE1, 3 A21, 4 A20, 5 A19, 6 A18, 7 A17, 8 A16, 9 VCC, 10 A15, 11 A14, 12 A13, 13 A12, 14 CE0, 15 Vpen, 16 RP#, 17 A11, 18 A10, 19 A9, 20 A8, 21 GND, 22 A7, 23 A6, 24 A5, 25 A4, 26 A3, 27 A2, 28 A1, 29 CE2, 30 A23, 31 BYTE#, 32 A0, 33 DQ0, 34 DQ8, 35 DQ1, 36 DQ9, 37 VCC, 38 DQ2, 39 DQ10, 40 DQ3, 41 DQ11, 42 GND, 43 VCC, 44 DQ4, 45 DQ12, 46 DQ5, 47 DQ13, 48 GND, 49 DQ6, 50 DQ14, 51 DQ7, 52 DQ15, 53 STS, 54 OE#, 55 WE#, 56 A24

## E28F160S3
designator U?
Flash 存储器
pins: 1 NC, 2 CE1, 3 NC, 4 A20, 5 A19, 6 A18, 7 A17, 8 A16, 9 VCC, 10 A15, 11 A14, 12 A13, 13 A12, 14 CE0, 15 VPP, 16 RP#, 17 A11, 18 A10, 19 A9, 20 A8, 21 GND, 22 A7, 23 A6, 24 A5, 25 A4, 26 A3, 27 A2, 28 A1, 29 NC, 30 NC, 31 BYTE#, 32 A0, 33 DQ0, 34 DQ8, 35 DQ1, 36 DQ9, 37 VCC, 38 DQ2, 39 DQ10, 40 DQ3, 41 DQ11, 42 GND, 43 VCC, 44 DQ4, 45 DQ12, 46 DQ5, 47 DQ13, 48 GND, 49 DQ6, 50 DQ14, 51 DQ7, 52 DQ15, 53 STS, 54 OE#, 55 WE#, 56 WP#

## E28F320J3A
designator *
pins: 1 NC, 2 CE1, 3 A21, 4 A20, 5 A19, 6 A18, 7 A17, 8 A16, 9 VCC, 10 A15, 11 A14, 12 A13, 13 A12, 14 CE0, 15 VPEN, 16 RP#, 17 A11, 18 A10, 19 A9, 20 A8, 21 GND, 22 A7, 23 A6, 24 A5, 25 A4, 26 A3, 27 A2, 28 A1, 29 CE2, 30 NC, 31 BYTE#, 32 A0, 33 DQ0, 34 DQ8, 35 DQ1, 36 DQ9, 37 VCC4, 38 DQ2, 39 DQ10, 40 DQ3, 41 DQ11, 42 GND, 43 VCCQ, 44 DQ4, 45 DQ12, 46 DQ5, 47 DQ13, 48 GND, 49 DQ6, 50 DQ14, 51 DQ7, 52 DQ15, 53 STS, 54 OE#, 55 WE#, 56 NC

## EClamp2410P.TCT
designator U?
SD TF 卡ESD
footprint SLP4016P16 (Footprint not found)
pins: 1 DAT1-in, 2 DAT0-in, 3 CLK-in, 4 Rup1, 5 VDD, 6 CMD-in, 7 DAT3-in, 8 DAT2-in, 9 DAT2-out, 10 DAT3-out, 11 CMD-out, 12 Rup2, 13 Rup3, 14 CLK-out, 15 DAT0-out, 16 DAT1-out, EP hidden to GND

## EL357N
designator U?
光电藕合器
footprint SOIC254P700-4 (SOIC, 4-Leads, Body 4.4 x 4.1mm, Pitch 2.54mm.)
pins: 1 A, 2 K, 3 E, 4 C

## EL7531
designator *
footprint TSSOP50P490-10L (TSSOP, 10-Leads, Body 3x3mm, Pitch 0.5mm, IPC High Density)
footprint TSOP65P490-8L (Footprint not found)
pins: 1 SGND (power), 2 PGND (power), 3 LX (power), 4 VIN (power), 5 VDD (power), 6 SYNC (power), 7 EN (power), 8 PG (power), 9 VO (power), 10 FB (power)

## EM4095
designator U?
ID Card read ic
footprint SOIC127P600-16AN (SOIC, 16-Leads, Body 9.9x3.9mm, Pitch 1.27mm, IPC Medium Density)
pins: 1 VSS, 2 RDY/CLK, 3 ANT1, 4 DVDD, 5 DVSS, 6 ANT2, 7 VDD, 8 DEMOD_IN, 9 CDEC_OUT, 10 CDEC_IN, 11 AGND, 12 MOD, 13 DEMOD_OUT, 14 SHD, 15 FCAP, 16 DC2

## EMIF03-SIM02M8
designator U?
footprint DFN40-8
pins: 1 VCC, 2 RST in, 3 CLK in, 4 DATA in, 5 DATA ext, 6 CLK ext, 7 RST ext, 8 VCC, 9 GND hidden to GND

## EMIF06-VID01F2
designator U?, comment ESD
EMIF06-VID01F2: LCD ESD
footprint BGA50-ESD06 (ESD)
pins: 1 I1, 2 I2, 3 I3, 4 I4, 5 I5, 6 I6, 7 O6, 8 O5, 9 O4, 10 O3, 11 O2, 12 O1, 13 GND hidden to GND, 14 GND hidden to GND, 15 GND hidden to GND

## EMIF08-VID01F2
designator U?, comment ESD
footprint BGA50-ESD08 (ESD)
pins: 1 I1, 2 I2, 3 I3, 4 I4, 5 I5, 6 I6, 7 I7, 8 I8, 9 O8, 10 O7, 11 O6, 12 O5, 13 O4, 14 O3, 15 O2, 16 O1, 17 GND hidden to GND, 18 GND hidden to GND, 19 GND hidden to GND, 20 GND hidden to GND

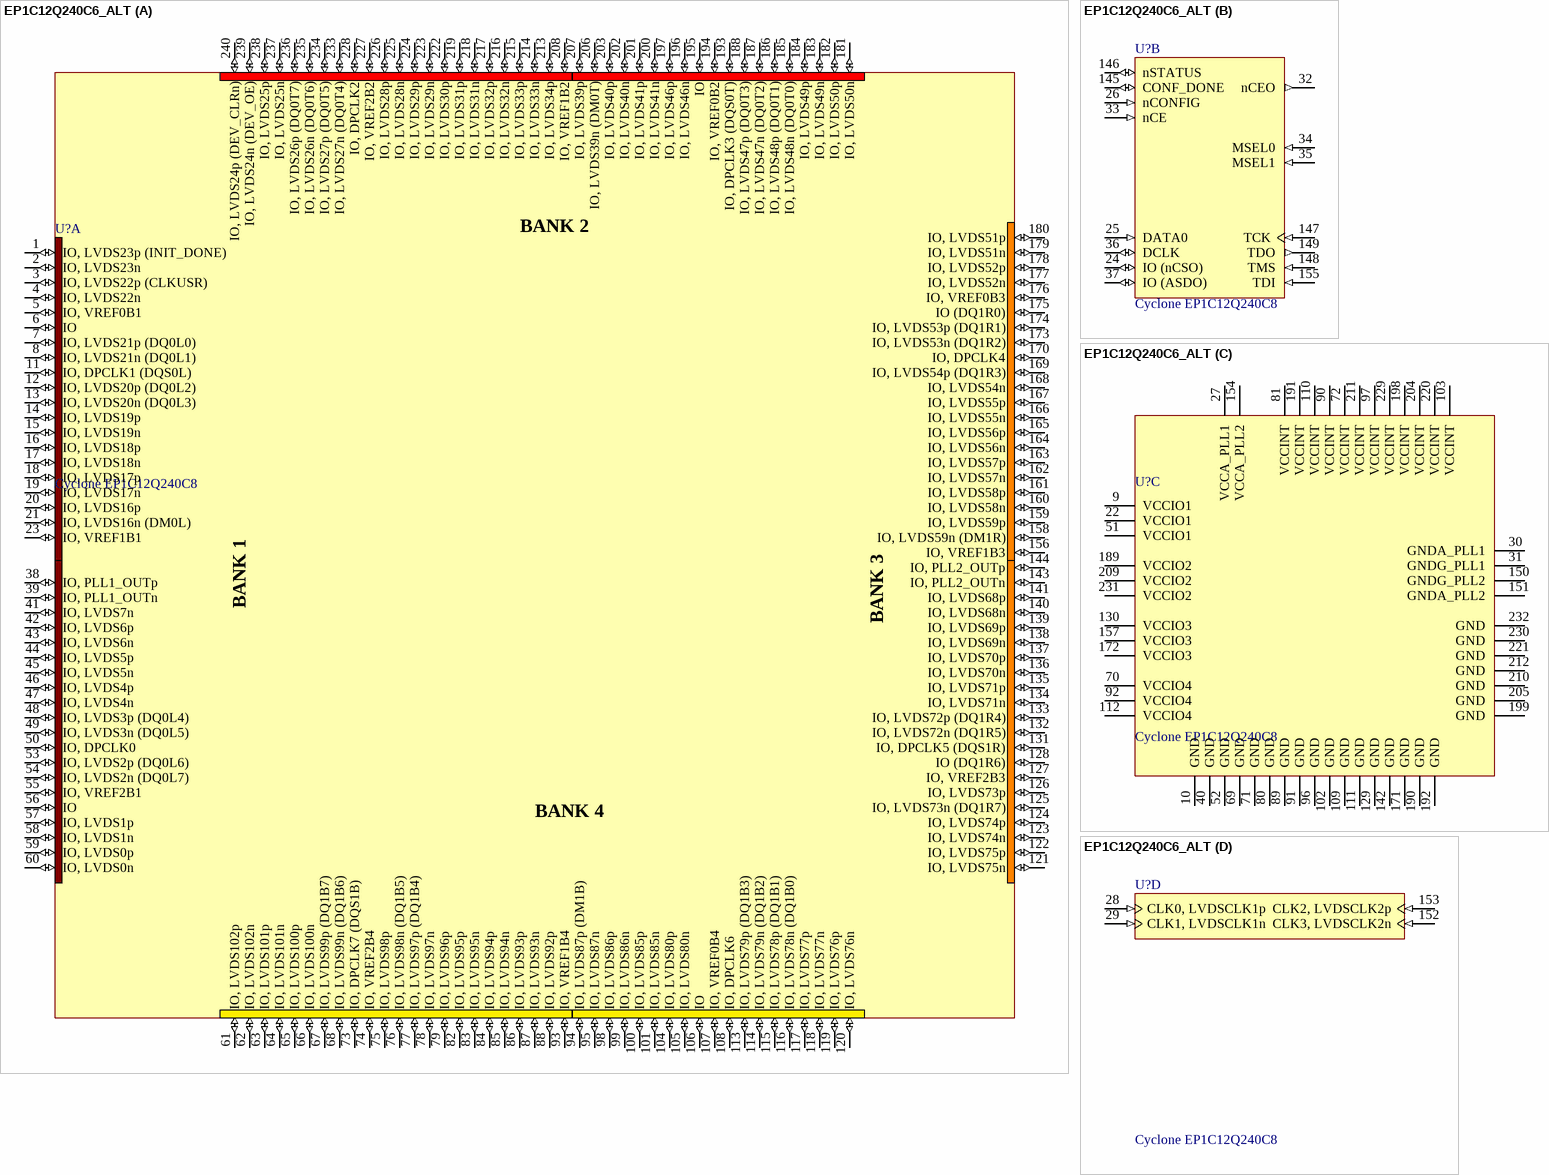
[diagram p4: symbol EP1C12Q240C6_ALT]

## EP1C12Q240C6_ALT
designator U?, comment Cyclone EP1C12Q240C8
Cyclone Family, 1.5V FPGA, 173 I/O Pins, 2 x PLLs, Commercial Grade, Speed Grade 6; Manufacturer: Altera; Package Information: Latest Revision: ver11.0, Feb-2003; Class I: Field Programmable Gate Array; Published: 25-Jun-2003; Datasheet: Latest Revision: ver1.0, May-2003; Package Reference: PQFP240; Publisher: Altium Limited; Class II: Cyclone
footprint F-QFP32X32-G240/P.5N(RS)
signal-integrity model Guessed Model (IC Model Details Guessed by Setup Helper)
footprint PQFP240_M (240-Pin Plastic Quad Flat Pack (PQFP240), IPC Low Density)
part A pins: 1 IO, LVDS23p (INIT_DONE) (io), 2 IO, LVDS23n (io), 3 IO, LVDS22p (CLKUSR) (io), 4 IO, LVDS22n (io), 5 IO, VREF0B1 (io), 6 IO (io), 7 IO, LVDS21p (DQ0L0) (io), 8 IO, LVDS21n (DQ0L1) (io), 11 IO, DPCLK1 (DQS0L) (io), 12 IO, LVDS20p (DQ0L2) (io), 13 IO, LVDS20n (DQ0L3) (io), 14 IO, LVDS19p (io), 15 IO, LVDS19n (io), 16 IO, LVDS18p (io), 17 IO, LVDS18n (io), 18 IO, LVDS17p (io), 19 IO, LVDS17n (io), 20 IO, LVDS16p (io), 21 IO, LVDS16n (DM0L) (io), 23 IO, VREF1B1 (io), 38 IO, PLL1_OUTp (io), 39 IO, PLL1_OUTn (io), 41 IO, LVDS7n (io), 42 IO, LVDS6p (io), 43 IO, LVDS6n (io), 44 IO, LVDS5p (io), 45 IO, LVDS5n (io), 46 IO, LVDS4p (io), 47 IO, LVDS4n (io), 48 IO, LVDS3p (DQ0L4) (io), 49 IO, LVDS3n (DQ0L5) (io), 50 IO, DPCLK0 (io), 53 IO, LVDS2p (DQ0L6) (io), 54 IO, LVDS2n (DQ0L7) (io), 55 IO, VREF2B1 (io), 56 IO (io), 57 IO, LVDS1p (io), 58 IO, LVDS1n (io), 59 IO, LVDS0p (io), 60 IO, LVDS0n (io), 61 IO, LVDS102p (io), 62 IO, LVDS102n (io), 63 IO, LVDS101p (io), 64 IO, LVDS101n (io), 65 IO, LVDS100p (io), 66 IO, LVDS100n (io), 67 IO, LVDS99p (DQ1B7) (io), 68 IO, LVDS99n (DQ1B6) (io), 73 IO, DPCLK7 (DQS1B) (io), 74 IO, VREF2B4 (io), 75 IO, LVDS98p (io), 76 IO, LVDS98n (DQ1B5) (io), 77 IO, LVDS97p (DQ1B4) (io), 78 IO, LVDS97n (io), 79 IO, LVDS96p (io), 82 IO, LVDS95p (io), 83 IO, LVDS95n (io), 84 IO, LVDS94p (io), 85 IO, LVDS94n (io), 86 IO, LVDS93p (io), 87 IO, LVDS93n (io), 88 IO, LVDS92p (io), 93 IO, VREF1B4 (io), 94 IO, LVDS87p (DM1B) (io), 95 IO, LVDS87n (io), 98 IO, LVDS86p (io), 99 IO, LVDS86n (io), 100 IO, LVDS85p (io), 101 IO, LVDS85n (io), 104 IO, LVDS80p (io), 105 IO, LVDS80n (io), 106 IO (io), 107 IO, VREF0B4 (io), 108 IO, DPCLK6 (io), 113 IO, LVDS79p (DQ1B3) (io), 114 IO, LVDS79n (DQ1B2) (io), 115 IO, LVDS78p (DQ1B1) (io), 116 IO, LVDS78n (DQ1B0) (io), 117 IO, LVDS77p (io), 118 IO, LVDS77n (io), 119 IO, LVDS76p (io), 120 IO, LVDS76n (io), 121 IO, LVDS75n (io), 122 IO, LVDS75p (io), 123 IO, LVDS74n (io), 124 IO, LVDS74p (io), 125 IO, LVDS73n (DQ1R7) (io), 126 IO, LVDS73p (io), 127 IO, VREF2B3 (io), 128 IO (DQ1R6) (io), 131 IO, DPCLK5 (DQS1R) (io), 132 IO, LVDS72n (DQ1R5) (io), 133 IO, LVDS72p (DQ1R4) (io), 134 IO, LVDS71n (io), 135 IO, LVDS71p (io), 136 IO, LVDS70n (io), 137 IO, LVDS70p (io), 138 IO, LVDS69n (io), 139 IO, LVDS69p (io), 140 IO, LVDS68n (io), 141 IO, LVDS68p (io), 143 IO, PLL2_OUTn (io), 144 IO, PLL2_OUTp (io), 156 IO, VREF1B3 (io), 158 IO, LVDS59n (DM1R) (io), 159 IO, LVDS59p (io), 160 IO, LVDS58n (io), 161 IO, LVDS58p (io), 162 IO, LVDS57n (io), 163 IO, LVDS57p (io), 164 IO, LVDS56n (io), 165 IO, LVDS56p (io), 166 IO, LVDS55n (io), 167 IO, LVDS55p (io), 168 IO, LVDS54n (io), 169 IO, LVDS54p (DQ1R3) (io), 170 IO, DPCLK4 (io), 173 IO, LVDS53n (DQ1R2) (io), 174 IO, LVDS53p (DQ1R1) (io), 175 IO (DQ1R0) (io), 176 IO, VREF0B3 (io), 177 IO, LVDS52n (io), 178 IO, LVDS52p (io), 179 IO, LVDS51n (io), 180 IO, LVDS51p (io), 181 IO, LVDS50n (io), 182 IO, LVDS50p (io), 183 IO, LVDS49n (io), 184 IO, LVDS49p (io), 185 IO, LVDS48n (DQ0T0) (io), 186 IO, LVDS48p (DQ0T1) (io), 187 IO, LVDS47n (DQ0T2) (io), 188 IO, LVDS47p (DQ0T3) (io), 193 IO, DPCLK3 (DQS0T) (io), 194 IO, VREF0B2 (io), 195 IO (io), 196 IO, LVDS46n (io), 197 IO, LVDS46p (io), 200 IO, LVDS41n (io), 201 IO, LVDS41p (io), 202 IO, LVDS40n (io), 203 IO, LVDS40p (io), 206 IO, LVDS39n (DM0T) (io), 207 IO, LVDS39p (io), 208 IO, VREF1B2 (io), 213 IO, LVDS34p (io), 214 IO, LVDS33n (io), 215 IO, LVDS33p (io), 216 IO, LVDS32n (io), 217 IO, LVDS32p (io), 218 IO, LVDS31n (io), 219 IO, LVDS31p (io), 222 IO, LVDS30p (io), 223 IO, LVDS29n (io), 224 IO, LVDS29p (io), 225 IO, LVDS28n (io), 226 IO, LVDS28p (io), 227 IO, VREF2B2 (io), 228 IO, DPCLK2 (io), 233 IO, LVDS27n (DQ0T4) (io), 234 IO, LVDS27p (DQ0T5) (io), 235 IO, LVDS26n (DQ0T6) (io), 236 IO, LVDS26p (DQ0T7) (io), 237 IO, LVDS25n (io), 238 IO, LVDS25p (io), 239 IO, LVDS24n (DEV_OE) (io), 240 IO, LVDS24p (DEV_CLRn) (io)
part B pins: 24 IO (nCSO) (io), 25 DATA0 (in), 26 nCONFIG (in), 32 nCEO (out), 33 nCE (in), 34 MSEL0 (in), 35 MSEL1 (in), 36 DCLK (io), 37 IO (ASDO) (io), 145 CONF_DONE (io), 146 nSTATUS (io), 147 TCK (in), 148 TMS (in), 149 TDO (out), 155 TDI (in)
part C pins: 9 VCCIO1 (power), 10 GND (power), 22 VCCIO1 (power), 27 VCCA_PLL1 (power), 30 GNDA_PLL1 (power), 31 GNDG_PLL1 (power), 40 GND (power), 51 VCCIO1 (power), 52 GND (power), 69 GND (power), 70 VCCIO4 (power), 71 GND (power), 72 VCCINT (power), 80 GND (power), 81 VCCINT (power), 89 GND (power), 90 VCCINT (power), 91 GND (power), 92 VCCIO4 (power), 96 GND (power), 97 VCCINT (power), 102 GND (power), 103 VCCINT (power), 109 GND (power), 110 VCCINT (power), 111 GND (power), 112 VCCIO4 (power), 129 GND (power), 130 VCCIO3 (power), 142 GND (power), 150 GNDG_PLL2 (power), 151 GNDA_PLL2 (power), 154 VCCA_PLL2 (power), 157 VCCIO3 (power), 171 GND (power), 172 VCCIO3 (power), 189 VCCIO2 (power), 190 GND (power), 191 VCCINT (power), 192 GND (power), 198 VCCINT (power), 199 GND (power), 204 VCCINT (power), 205 GND (power), 209 VCCIO2 (power), 210 GND (power), 211 VCCINT (power), 212 GND (power), 220 VCCINT (power), 221 GND (power), 229 VCCINT (power), 230 GND (power), 231 VCCIO2 (power), 232 GND (power)
part D pins: 28 CLK0, LVDSCLK1p (in), 29 CLK1, LVDSCLK1n (in), 152 CLK3, LVDSCLK2n (in), 153 CLK2, LVDSCLK2p (in)
part A text: BANK 2; BANK 1; BANK 3; BANK 4

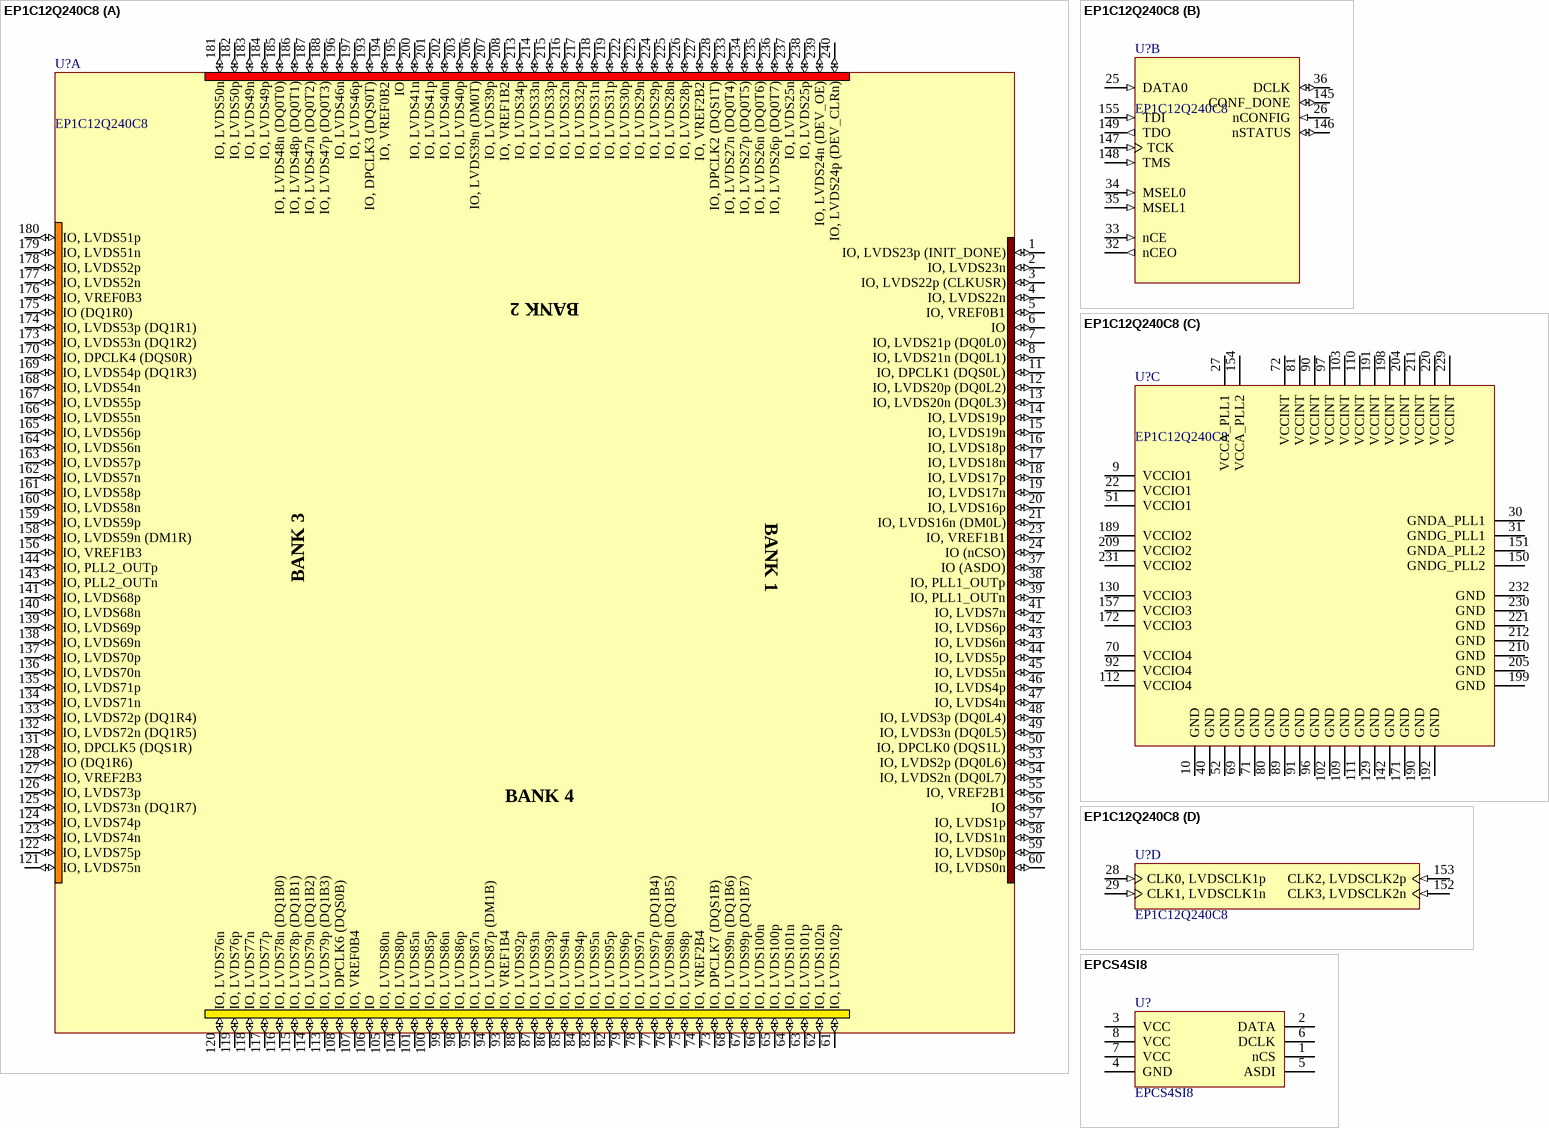
[diagram p5: symbols EP1C12Q240C8 to EPCS4SI8]

## EP1C12Q240C8
designator U?
Cyclone Family, 1.5V FPGA, 173 I/O Pins, 2 x PLLs, Commercial Grade, Speed Grade 8; PackageDocument: ver11.0, Feb-2003; Published: 17-Sep-2003; LatestRevisionDate: 19-Mar-2004; LatestRevisionNote: Updated pin names.; DatasheetDocument: ver1.4, Jan-2004; PackageReference: PQFP240; Publisher: Altium Limited; Code_JEDEC: MS-029-GA
footprint PQFP240_M (240-Pin Plastic Quad Flat Pack (PQFP240), IPC Low Density)
signal-integrity model 1c (Cyclone)
part A pins: 1 IO, LVDS23p (INIT_DONE) (io), 2 IO, LVDS23n (io), 3 IO, LVDS22p (CLKUSR) (io), 4 IO, LVDS22n (io), 5 IO, VREF0B1 (io), 6 IO (io), 7 IO, LVDS21p (DQ0L0) (io), 8 IO, LVDS21n (DQ0L1) (io), 11 IO, DPCLK1 (DQS0L) (io), 12 IO, LVDS20p (DQ0L2) (io), 13 IO, LVDS20n (DQ0L3) (io), 14 IO, LVDS19p (io), 15 IO, LVDS19n (io), 16 IO, LVDS18p (io), 17 IO, LVDS18n (io), 18 IO, LVDS17p (io), 19 IO, LVDS17n (io), 20 IO, LVDS16p (io), 21 IO, LVDS16n (DM0L) (io), 23 IO, VREF1B1 (io), 24 IO (nCSO) (io), 37 IO (ASDO) (io), 38 IO, PLL1_OUTp (io), 39 IO, PLL1_OUTn (io), 41 IO, LVDS7n (io), 42 IO, LVDS6p (io), 43 IO, LVDS6n (io), 44 IO, LVDS5p (io), 45 IO, LVDS5n (io), 46 IO, LVDS4p (io), 47 IO, LVDS4n (io), 48 IO, LVDS3p (DQ0L4) (io), 49 IO, LVDS3n (DQ0L5) (io), 50 IO, DPCLK0 (DQS1L) (io), 53 IO, LVDS2p (DQ0L6) (io), 54 IO, LVDS2n (DQ0L7) (io), 55 IO, VREF2B1 (io), 56 IO (io), 57 IO, LVDS1p (io), 58 IO, LVDS1n (io), 59 IO, LVDS0p (io), 60 IO, LVDS0n (io), 61 IO, LVDS102p (io), 62 IO, LVDS102n (io), 63 IO, LVDS101p (io), 64 IO, LVDS101n (io), 65 IO, LVDS100p (io), 66 IO, LVDS100n (io), 67 IO, LVDS99p (DQ1B7) (io), 68 IO, LVDS99n (DQ1B6) (io), 73 IO, DPCLK7 (DQS1B) (io), 74 IO, VREF2B4 (io), 75 IO, LVDS98p (io), 76 IO, LVDS98n (DQ1B5) (io), 77 IO, LVDS97p (DQ1B4) (io), 78 IO, LVDS97n (io), 79 IO, LVDS96p (io), 82 IO, LVDS95p (io), 83 IO, LVDS95n (io), 84 IO, LVDS94p (io), 85 IO, LVDS94n (io), 86 IO, LVDS93p (io), 87 IO, LVDS93n (io), 88 IO, LVDS92p (io), 93 IO, VREF1B4 (io), 94 IO, LVDS87p (DM1B) (io), 95 IO, LVDS87n (io), 98 IO, LVDS86p (io), 99 IO, LVDS86n (io), 100 IO, LVDS85p (io), 101 IO, LVDS85n (io), 104 IO, LVDS80p (io), 105 IO, LVDS80n (io), 106 IO (io), 107 IO, VREF0B4 (io), 108 IO, DPCLK6 (DQS0B) (io), 113 IO, LVDS79p (DQ1B3) (io), 114 IO, LVDS79n (DQ1B2) (io), 115 IO, LVDS78p (DQ1B1) (io), 116 IO, LVDS78n (DQ1B0) (io), 117 IO, LVDS77p (io), 118 IO, LVDS77n (io), 119 IO, LVDS76p (io), 120 IO, LVDS76n (io), 121 IO, LVDS75n (io), 122 IO, LVDS75p (io), 123 IO, LVDS74n (io), 124 IO, LVDS74p (io), 125 IO, LVDS73n (DQ1R7) (io), 126 IO, LVDS73p (io), 127 IO, VREF2B3 (io), 128 IO (DQ1R6) (io), 131 IO, DPCLK5 (DQS1R) (io), 132 IO, LVDS72n (DQ1R5) (io), 133 IO, LVDS72p (DQ1R4) (io), 134 IO, LVDS71n (io), 135 IO, LVDS71p (io), 136 IO, LVDS70n (io), 137 IO, LVDS70p (io), 138 IO, LVDS69n (io), 139 IO, LVDS69p (io), 140 IO, LVDS68n (io), 141 IO, LVDS68p (io), 143 IO, PLL2_OUTn (io), 144 IO, PLL2_OUTp (io), 156 IO, VREF1B3 (io), 158 IO, LVDS59n (DM1R) (io), 159 IO, LVDS59p (io), 160 IO, LVDS58n (io), 161 IO, LVDS58p (io), 162 IO, LVDS57n (io), 163 IO, LVDS57p (io), 164 IO, LVDS56n (io), 165 IO, LVDS56p (io), 166 IO, LVDS55n (io), 167 IO, LVDS55p (io), 168 IO, LVDS54n (io), 169 IO, LVDS54p (DQ1R3) (io), 170 IO, DPCLK4 (DQS0R) (io), 173 IO, LVDS53n (DQ1R2) (io), 174 IO, LVDS53p (DQ1R1) (io), 175 IO (DQ1R0) (io), 176 IO, VREF0B3 (io), 177 IO, LVDS52n (io), 178 IO, LVDS52p (io), 179 IO, LVDS51n (io), 180 IO, LVDS51p (io), 181 IO, LVDS50n (io), 182 IO, LVDS50p (io), 183 IO, LVDS49n (io), 184 IO, LVDS49p (io), 185 IO, LVDS48n (DQ0T0) (io), 186 IO, LVDS48p (DQ0T1) (io), 187 IO, LVDS47n (DQ0T2) (io), 188 IO, LVDS47p (DQ0T3) (io), 193 IO, DPCLK3 (DQS0T) (io), 194 IO, VREF0B2 (io), 195 IO (io), 196 IO, LVDS46n (io), 197 IO, LVDS46p (io), 200 IO, LVDS41n (io), 201 IO, LVDS41p (io), 202 IO, LVDS40n (io), 203 IO, LVDS40p (io), 206 IO, LVDS39n (DM0T) (io), 207 IO, LVDS39p (io), 208 IO, VREF1B2 (io), 213 IO, LVDS34p (io), 214 IO, LVDS33n (io), 215 IO, LVDS33p (io), 216 IO, LVDS32n (io), 217 IO, LVDS32p (io), 218 IO, LVDS31n (io), 219 IO, LVDS31p (io), 222 IO, LVDS30p (io), 223 IO, LVDS29n (io), 224 IO, LVDS29p (io), 225 IO, LVDS28n (io), 226 IO, LVDS28p (io), 227 IO, VREF2B2 (io), 228 IO, DPCLK2 (DQS1T) (io), 233 IO, LVDS27n (DQ0T4) (io), 234 IO, LVDS27p (DQ0T5) (io), 235 IO, LVDS26n (DQ0T6) (io), 236 IO, LVDS26p (DQ0T7) (io), 237 IO, LVDS25n (io), 238 IO, LVDS25p (io), 239 IO, LVDS24n (DEV_OE) (io), 240 IO, LVDS24p (DEV_CLRn) (io)
part B pins: 25 DATA0 (in), 26 nCONFIG (in), 32 nCEO (out), 33 nCE (in), 34 MSEL0 (in), 35 MSEL1 (in), 36 DCLK (io), 145 CONF_DONE (io), 146 nSTATUS (io), 147 TCK (in), 148 TMS (in), 149 TDO (out), 155 TDI (in)
part C pins: 9 VCCIO1 (power), 10 GND (power), 22 VCCIO1 (power), 27 VCCA_PLL1 (power), 30 GNDA_PLL1 (power), 31 GNDG_PLL1 (power), 40 GND (power), 51 VCCIO1 (power), 52 GND (power), 69 GND (power), 70 VCCIO4 (power), 71 GND (power), 72 VCCINT (power), 80 GND (power), 81 VCCINT (power), 89 GND (power), 90 VCCINT (power), 91 GND (power), 92 VCCIO4 (power), 96 GND (power), 97 VCCINT (power), 102 GND (power), 103 VCCINT (power), 109 GND (power), 110 VCCINT (power), 111 GND (power), 112 VCCIO4 (power), 129 GND (power), 130 VCCIO3 (power), 142 GND (power), 150 GNDG_PLL2 (power), 151 GNDA_PLL2 (power), 154 VCCA_PLL2 (power), 157 VCCIO3 (power), 171 GND (power), 172 VCCIO3 (power), 189 VCCIO2 (power), 190 GND (power), 191 VCCINT (power), 192 GND (power), 198 VCCINT (power), 199 GND (power), 204 VCCINT (power), 205 GND (power), 209 VCCIO2 (power), 210 GND (power), 211 VCCINT (power), 212 GND (power), 220 VCCINT (power), 221 GND (power), 229 VCCINT (power), 230 GND (power), 231 VCCIO2 (power), 232 GND (power)
part D pins: 28 CLK0, LVDSCLK1p (in), 29 CLK1, LVDSCLK1n (in), 152 CLK3, LVDSCLK2n (in), 153 CLK2, LVDSCLK2p (in)
part A text: BANK 2; BANK 1; BANK 3; BANK 4

## EPCS4SI8
designator U?
footprint SOIC127P600-8CN (SOIC, 8-Leads, Body 4.9x3.9mm, Pitch 1.27mm, IPC Medium Density)
pins: 1 nCS, 2 DATA, 3 VCC, 4 GND, 5 ASDI, 6 DCLK, 7 VCC, 8 VCC

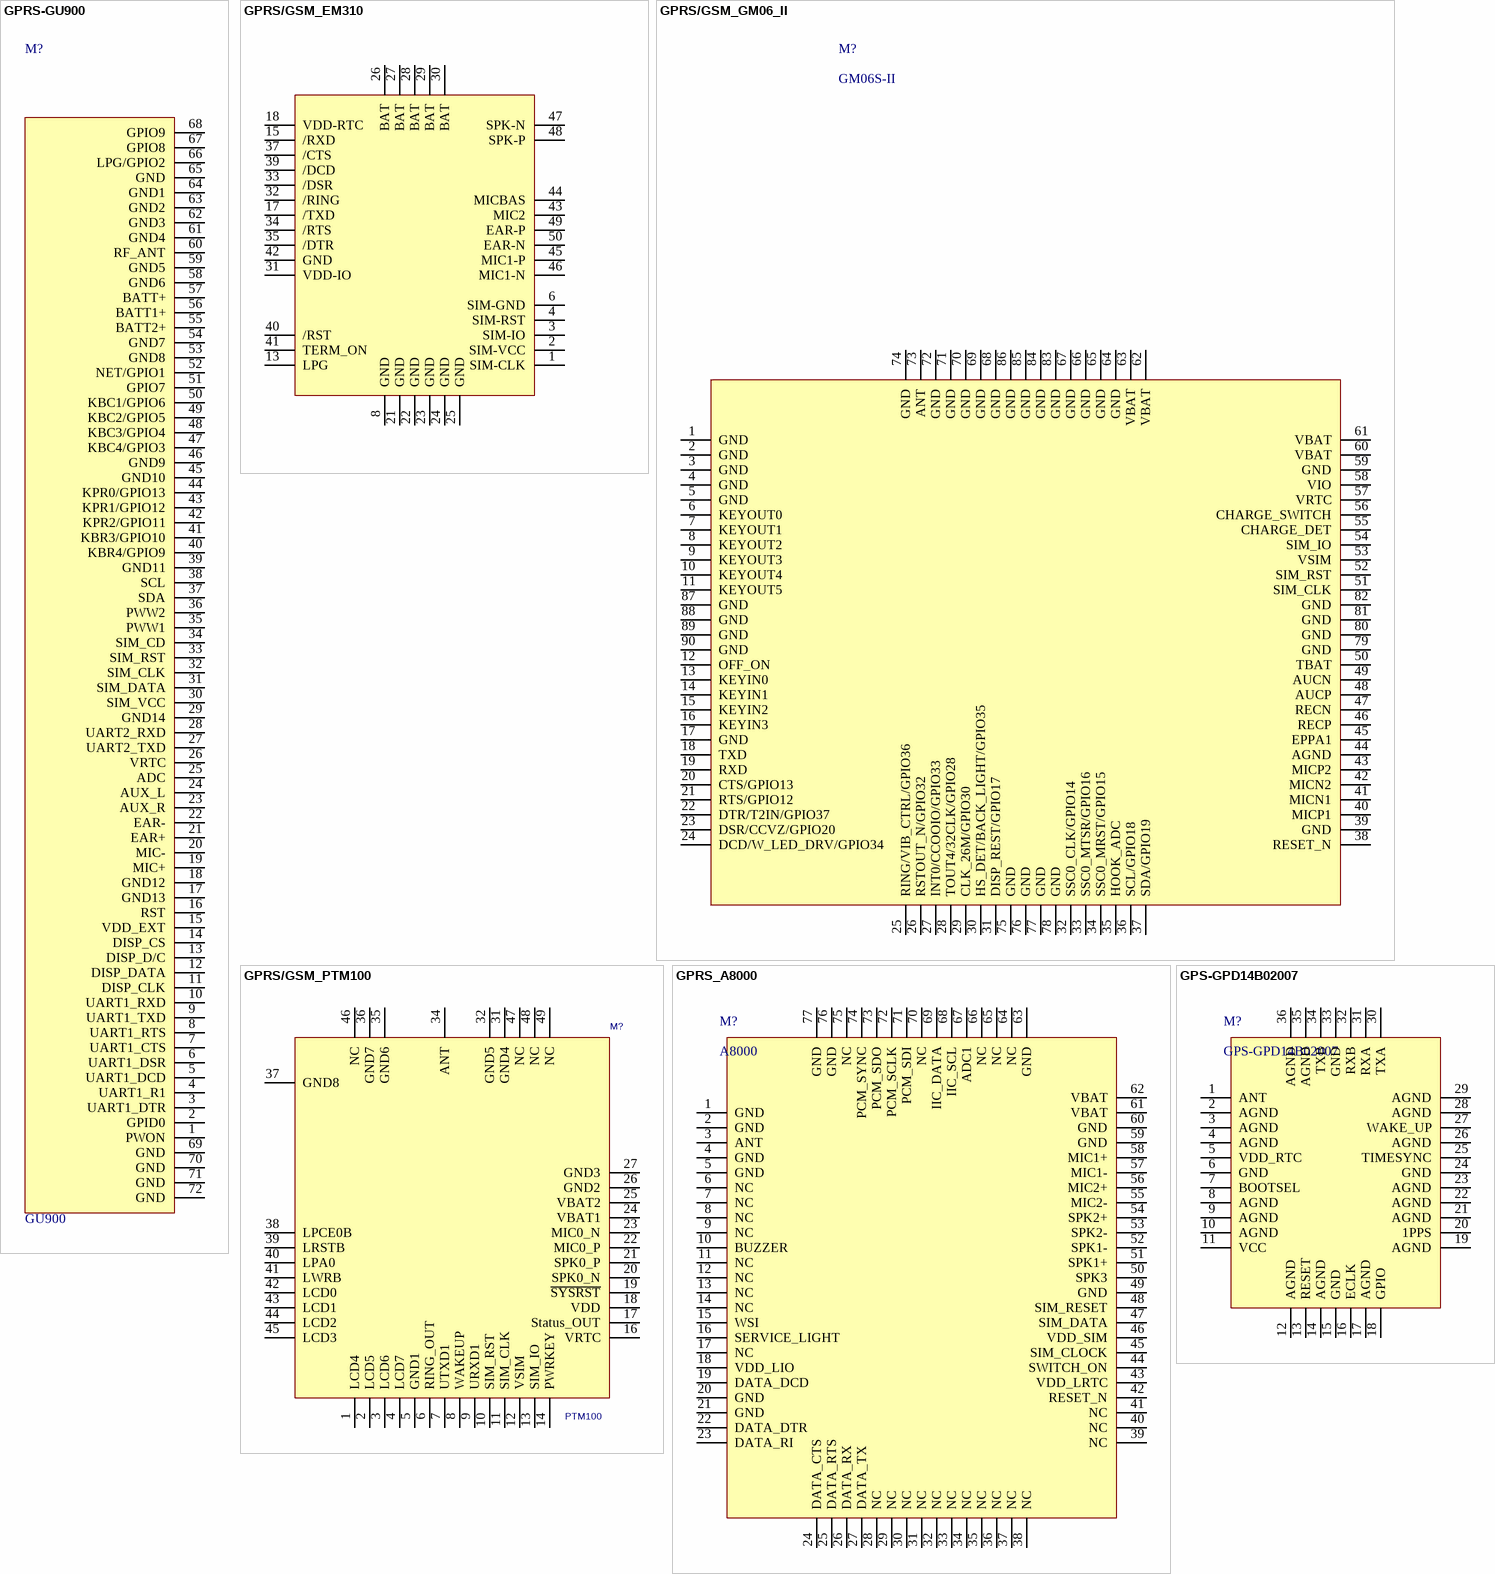
[diagram p6: symbols GPRS-GU900 to GPS-GPD14B02007]

## GPRS-GU900
designator M?, comment GU900
footprint GPRS_GU900 (Footprint not found)
pins: 1 PWON, 2 GPID0, 3 UART1_DTR, 4 UART1_R1, 5 UART1_DCD, 6 UART1_DSR, 7 UART1_CTS, 8 UART1_RTS, 9 UART1_TXD, 10 UART1_RXD, 11 DISP_CLK, 12 DISP_DATA, 13 DISP_D/C, 14 DISP_CS, 15 VDD_EXT, 16 RST, 17 GND13, 18 GND12, 19 MIC+, 20 MIC-, 21 EAR+, 22 EAR-, 23 AUX_R, 24 AUX_L, 25 ADC, 26 VRTC, 27 UART2_TXD, 28 UART2_RXD, 29 GND14, 30 SIM_VCC, 31 SIM_DATA, 32 SIM_CLK, 33 SIM_RST, 34 SIM_CD, 35 PWW1, 36 PWW2, 37 SDA, 38 SCL, 39 GND11, 40 KBR4/GPIO9, 41 KBR3/GPIO10, 42 KPR2/GPIO11, 43 KPR1/GPIO12, 44 KPR0/GPIO13, 45 GND10, 46 GND9, 47 KBC4/GPIO3, 48 KBC3/GPIO4, 49 KBC2/GPIO5, 50 KBC1/GPIO6, 51 GPIO7, 52 NET/GPIO1, 53 GND8, 54 GND7, 55 BATT2+, 56 BATT1+, 57 BATT+, 58 GND6, 59 GND5, 60 RF_ANT, 61 GND4, 62 GND3, 63 GND2, 64 GND1, 65 GND, 66 LPG/GPIO2, 67 GPIO8, 68 GPIO9, 69 GND, 70 GND, 71 GND, 72 GND

## GPRS/GSM_EM310
designator J19, comment EM310
华为GPRS模块
footprint DF12E-50DP-0.5V(81) (Footprint not found)
pins: 1 SIM-CLK, 2 SIM-VCC, 3 SIM-IO, 4 SIM-RST, 5 NC hidden, 6 SIM-GND, 7 NC hidden, 8 GND, 9 USB_D- hidden, 10 USB_D+ hidden, 11 VBUS hidden, 12 NC hidden, 13 LPG hidden, 13 LPG, 14 NC hidden, 15 /RXD, 16 NC hidden, 17 /TXD, 18 VDD-RTC, 19 NC hidden, 20 NC hidden, 21 GND, 22 GND, 23 GND, 24 GND, 25 GND, 26 BAT, 27 BAT, 28 BAT, 29 BAT, 30 BAT, 31 VDD-IO, 32 /RING, 33 /DSR, 34 /RTS, 35 /DTR, 36 NC hidden, 37 /CTS, 38 NC hidden, 39 /DCD, 40 /RST, 41 TERM_ON, 42 GND, 43 MIC2, 44 MICBAS, 45 MIC1-P, 46 MIC1-N, 47 SPK-N, 48 SPK-P, 49 EAR-P, 50 EAR-N

## GPRS/GSM_GM06_II
designator M?, comment GM06S-II
GPRS/GSM 模块, GM06S-II
footprint GPRS/GSM_GM06S-II (Footprint not found)
footprint GPRS/GSM_GM06S-IID (GPRS/GSM 经纬模块)
pins: 1 GND "裸焊盘", 2 GND "裸焊盘", 3 GND "裸焊盘", 4 GND "裸焊盘", 5 GND "裸焊盘", 6 KEYOUT0 "裸焊盘", 7 KEYOUT1 "裸焊盘", 8 KEYOUT2 "裸焊盘", 9 KEYOUT3 "裸焊盘", 10 KEYOUT4 "裸焊盘", 11 KEYOUT5 "裸焊盘", 12 OFF_ON "裸焊盘", 13 KEYIN0 "裸焊盘", 14 KEYIN1 "裸焊盘", 15 KEYIN2 "裸焊盘", 16 KEYIN3 "裸焊盘", 17 GND "裸焊盘", 18 TXD "裸焊盘", 19 RXD "裸焊盘", 20 CTS/GPIO13 "裸焊盘", 21 RTS/GPIO12 "裸焊盘", 22 DTR/T2IN/GPIO37 "裸焊盘", 23 DSR/CCVZ/GPIO20 "裸焊盘", 24 DCD/W_LED_DRV/GPIO34 "裸焊盘", 25 RING/VIB_CTRL/GPIO36 "裸焊盘", 26 RSTOUT_N/GPIO32 "裸焊盘", 27 INT0/CCOOIO/GPIO33 "裸焊盘", 28 TOUT4/32CLK/GPIO28 "裸焊盘", 29 CLK_26M/GPIO30 "裸焊盘", 30 HS_DET/BACK_LIGHT/GPIO35 "裸焊盘", 31 DISP_REST/GPIO17 "裸焊盘", 32 SSC0_CLK/GPIO14 "裸焊盘", 33 SSC0_MTSR/GPIO16 "裸焊盘", 34 SSC0_MRST/GPIO15 "裸焊盘", 35 HOOK_ADC "裸焊盘", 36 SCL/GPIO18 "裸焊盘", 37 SDA/GPIO19 "裸焊盘", 38 RESET_N "裸焊盘", 39 GND "裸焊盘", 40 MICP1 "裸焊盘", 41 MICN1 "裸焊盘", 42 MICN2 "裸焊盘", 43 MICP2 "裸焊盘", 44 AGND "裸焊盘", 45 EPPA1 "裸焊盘", 46 RECP "裸焊盘", 47 RECN "裸焊盘", 48 AUCP "裸焊盘", 49 AUCN "裸焊盘", 50 TBAT "裸焊盘", 51 SIM_CLK "裸焊盘", 52 SIM_RST "裸焊盘", 53 VSIM "裸焊盘", 54 SIM_IO "裸焊盘", 55 CHARGE_DET "裸焊盘", 56 CHARGE_SWITCH "裸焊盘", 57 VRTC "裸焊盘", 58 VIO "裸焊盘", 59 GND "裸焊盘", 60 VBAT "裸焊盘", 61 VBAT "裸焊盘", 62 VBAT "裸焊盘", 63 VBAT "裸焊盘", 64 GND "裸焊盘", 65 GND "裸焊盘", 66 GND "裸焊盘", 67 GND "裸焊盘", 68 GND "裸焊盘", 69 GND "裸焊盘", 70 GND "裸焊盘", 71 GND "裸焊盘", 72 GND "裸焊盘", 73 ANT "裸焊盘", 74 GND "裸焊盘", 75 GND "裸焊盘", 76 GND "裸焊盘", 77 GND "裸焊盘", 78 GND "裸焊盘", 79 GND "裸焊盘", 80 GND "裸焊盘", 81 GND "裸焊盘", 82 GND "裸焊盘", 83 GND "裸焊盘", 84 GND "裸焊盘", 85 GND "裸焊盘", 86 GND "裸焊盘", 87 GND "裸焊盘", 88 GND "裸焊盘", 89 GND "裸焊盘", 90 GND "裸焊盘", 91 GND hidden to GND "裸焊盘", 92 GND hidden to GND "裸焊盘", 93 GND hidden to GND "裸焊盘", 94 GND hidden to GND "裸焊盘", 95 GND hidden to GND "裸焊盘", 96 GND hidden to GND "裸焊盘", 97 GND hidden to GND "裸焊盘", 98 GND hidden to GND "裸焊盘", 99 GND hidden to GND "裸焊盘", 100 GND hidden to GND "裸焊盘", 101 GND hidden to GND "裸焊盘", 102 GND hidden to GND "裸焊盘"

## GPRS/GSM_PTM100
designator M?, comment PTM100
Right: 200; Bottom: 240
footprint GPRS/GSM_PTM100 (广州市谱泰通信科技有限公司 GPRS/GSM 模块)
pins: 1 LCD4, 2 LCD5, 3 LCD6, 4 LCD7, 5 GND1, 6 RING_OUT, 7 UTXD1, 8 WAKEUP, 9 URXD1, 10 SIM_RST, 11 SIM_CLK, 12 VSIM, 13 SIM_IO, 14 PWRKEY, 16 VRTC, 17 Status_OUT, 18 VDD, 19 ~{SYSRST}, 20 SPK0_N, 21 SPK0_P, 22 MIC0_P, 23 MIC0_N, 24 VBAT1, 25 VBAT2, 26 GND2, 27 GND3, 31 GND4, 32 GND5, 34 ANT, 35 GND6, 36 GND7, 37 GND8, 38 LPCE0B, 39 LRSTB, 40 LPA0, 41 LWRB, 42 LCD0, 43 LCD1, 44 LCD2, 45 LCD3, 46 NC, 47 NC, 48 NC, 49 NC
2 alternate drawings of the same symbol

## GPRS_A8000
designator M?, comment A8000
GSM/GPRS模块
footprint GPRS_A8000-77a (GPRS模块)
footprint GPRS_A8000-77P (GPRS模块)
pins: 1 GND "裸焊盘", 2 GND "裸焊盘", 3 ANT "裸焊盘", 4 GND "裸焊盘", 5 GND "裸焊盘", 6 NC "裸焊盘", 7 NC "裸焊盘", 8 NC "裸焊盘", 9 NC "裸焊盘", 10 BUZZER "裸焊盘", 11 NC "裸焊盘", 12 NC "裸焊盘", 13 NC "裸焊盘", 14 NC "裸焊盘", 15 WSI "裸焊盘", 16 SERVICE_LIGHT "裸焊盘", 17 NC "裸焊盘", 18 VDD_LIO "裸焊盘", 19 DATA_DCD "裸焊盘", 20 GND "裸焊盘", 21 GND "裸焊盘", 22 DATA_DTR "裸焊盘", 23 DATA_RI "裸焊盘", 24 DATA_CTS "裸焊盘", 25 DATA_RTS "裸焊盘", 26 DATA_RX "裸焊盘", 27 DATA_TX "裸焊盘", 28 NC "裸焊盘", 29 NC "裸焊盘", 30 NC "裸焊盘", 31 NC "裸焊盘", 32 NC "裸焊盘", 33 NC "裸焊盘", 34 NC "裸焊盘", 35 NC "裸焊盘", 36 NC "裸焊盘", 37 NC "裸焊盘", 38 NC "裸焊盘", 39 NC "裸焊盘", 40 NC "裸焊盘", 41 NC "裸焊盘", 42 RESET_N "裸焊盘", 43 VDD_LRTC "裸焊盘", 44 SWITCH_ON "裸焊盘", 45 SIM_CLOCK "裸焊盘", 46 VDD_SIM "裸焊盘", 47 SIM_DATA "裸焊盘", 48 SIM_RESET "裸焊盘", 49 GND "裸焊盘", 50 SPK3 "裸焊盘", 51 SPK1+ "裸焊盘", 52 SPK1- "裸焊盘", 53 SPK2- "裸焊盘", 54 SPK2+ "裸焊盘", 55 MIC2- "裸焊盘", 56 MIC2+ "裸焊盘", 57 MIC1- "裸焊盘", 58 MIC1+ "裸焊盘", 59 GND "裸焊盘", 60 GND "裸焊盘", 61 VBAT "裸焊盘", 62 VBAT "裸焊盘", 63 GND "裸焊盘", 64 NC "裸焊盘", 65 NC "裸焊盘", 66 NC "裸焊盘", 67 ADC1 "裸焊盘", 68 IIC_SCL "裸焊盘", 69 IIC_DATA "裸焊盘", 70 NC "裸焊盘", 71 PCM_SDI "裸焊盘", 72 PCM_SCLK "裸焊盘", 73 PCM_SDO "裸焊盘", 74 PCM_SYNC "裸焊盘", 75 NC "裸焊盘", 76 GND "裸焊盘", 77 GND "裸焊盘"

## GPS-GPD14B02007
designator M?
SAMSUNG GPS模块
footprint GPS-GPD14B02007 (Footprint not found)
pins: 1 ANT "GPS RF input, 1575.42MHz, 50ohm,2.85V active antenna Bias output", 2 AGND "Analog system ground", 3 AGND "Analog system ground", 4 AGND "Analog system ground", 5 VDD_RTC "BBSRAM Power, Input voltage Typ. 3.0V  A reasonably safe value would be ripple of <20mVpp from DC to 3 MHz.", 6 GND "Analog system ground (Chassis GND)", 7 BOOTSEL "This pin is for program download.  This pin should be High when the program is downloaded.  If the B/S is High then the module will boot from the serial port. and  If the B/S is Low then the module will begin execution from the on-board  FLASH. Please set Low during operating Mode", 8 AGND "Analog system ground", 9 AGND "Analog system ground", 10 AGND "Analog system ground", 11 VCC "GPS main Supply. Input voltage Typ. 3.3V(3.0V<VCC_GPS<3.5V).  A reasonably safe value would be ripple of <50mVpp from DC to 3 MHz.", 12 AGND "Analog system ground", 13 RESET "Input voltage Typ. 3.0V. On module power up this signal should remain low until power stable.  This input is low active.  A reasonably safe value would be ripple of <50mVpp from DC to 3 MHz.", 14 AGND "Analog system ground", 15 GND "Analog system ground (Chassis GND)", 16 ECLK "Pull-up via 4.7K to 10K.(Conventional Autonomous mode)  CMOS signal, non-steered during clock correction.  ±0.1ppm or less (during correction) 19.2MHz", 17 AGND "Analog system ground", 18 GPIO "General Purpose Input Output", 19 AGND "Analog system ground", 20 1PPS "1 Pulse Per Second", 21 AGND "Analog system ground", 22 AGND "Analog system ground", 23 AGND "Analog system ground", 24 GND "Analog system ground (Chassis GND)", 25 TIMESYNC "Pull-down via 4.7K to 10K.(Conventional Autonomous mode)  A timing pulse is triggered on the rising edge  – minimum 100 ns wide, maximum ~1 ms.", 26 AGND "Analog system ground", 27 WAKE_UP "This Pin is not available now. Pull-down via 4.7K to 10K.", 28 AGND "Analog system ground", 29 AGND "Analog system ground", 30 TXA "Serial Port From GPS To Host. 2.85V CMOS Level", 31 RXA "Serial Port From Host To GPS. CMOS Level", 32 RXB "Auxiliary Serial UART interface, unused (only debugging)", 33 GND "Analog system ground (Chassis GND)", 34 TXB "Auxiliary Serial UART interface, unused (only debugging)", 35 AGND "Analog system ground", 36 AGND "Analog system ground"

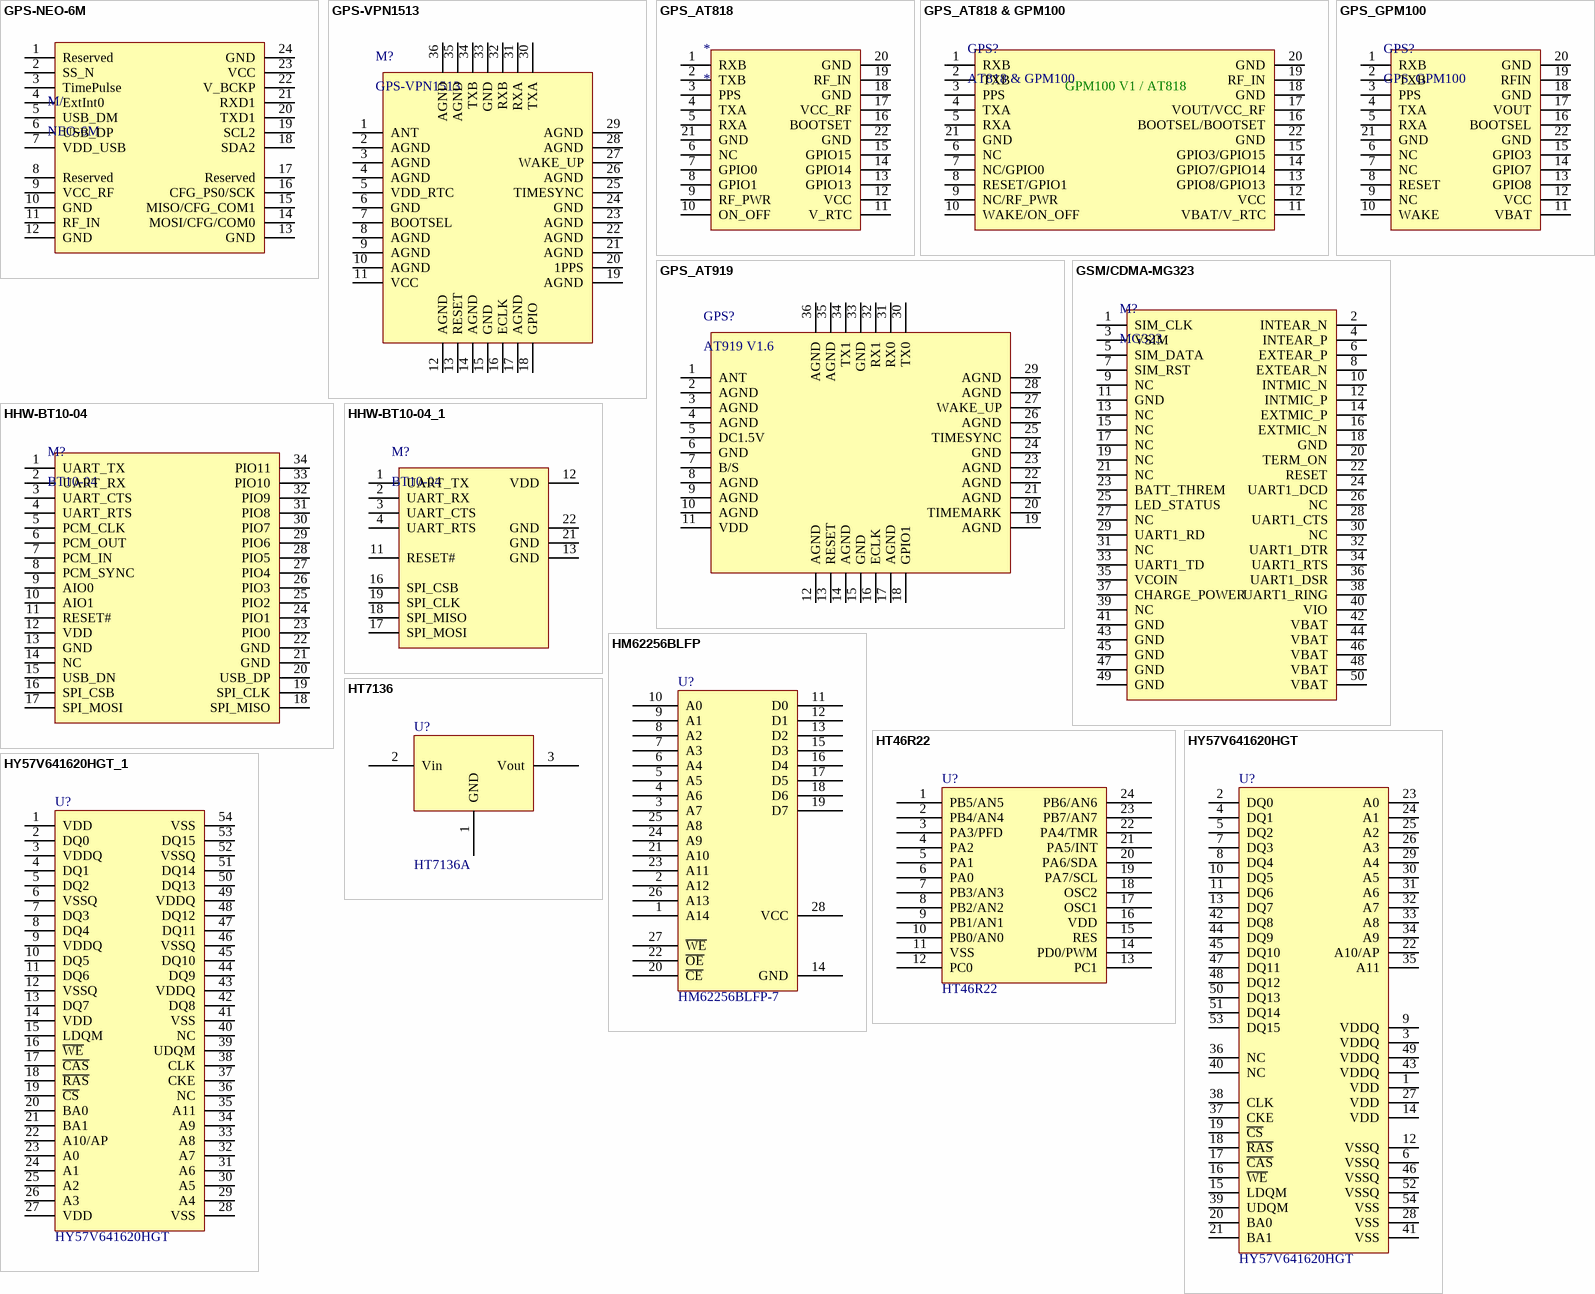
[diagram p7: symbols GPS-NEO-6M to HY57V641620HGT_1]

## GPS-NEO-6M
designator M/, comment NEO-6M
ublox GPS模块
footprint NEO-6M (Footprint not found)
pins: 1 Reserved, 2 SS_N, 3 TimePulse, 4 ExtInt0, 5 USB_DM, 6 USB_DP, 7 VDD_USB, 8 Reserved, 9 VCC_RF, 10 GND, 11 RF_IN, 12 GND, 13 GND, 14 MOSI/CFG/COM0, 15 MISO/CFG_COM1, 16 CFG_PS0/SCK, 17 Reserved, 18 SDA2, 19 SCL2, 20 TXD1, 21 RXD1, 22 V_BCKP, 23 VCC, 24 GND

## GPS-VPN1513
designator M?
VPN GPS模块
footprint GPS-VPN1513 (Footprint not found)
pins: 1 ANT "GPS RF input, 1575.42MHz, 50ohm,2.85V active antenna Bias output", 2 AGND "Analog system ground", 3 AGND "Analog system ground", 4 AGND "Analog system ground", 5 VDD_RTC "BBSRAM Power, Input voltage Typ. 3.0V  A reasonably safe value would be ripple of <20mVpp from DC to 3 MHz.", 6 GND "Analog system ground (Chassis GND)", 7 BOOTSEL "This pin is for program download.  This pin should be High when the program is downloaded.  If the B/S is High then the module will boot from the serial port. and  If the B/S is Low then the module will begin execution from the on-board  FLASH. Please set Low during operating Mode", 8 AGND "Analog system ground", 9 AGND "Analog system ground", 10 AGND "Analog system ground", 11 VCC "GPS main Supply. Input voltage Typ. 3.3V(3.0V<VCC_GPS<3.5V).  A reasonably safe value would be ripple of <50mVpp from DC to 3 MHz.", 12 AGND "Analog system ground", 13 RESET "Input voltage Typ. 3.0V. On module power up this signal should remain low until power stable.  This input is low active.  A reasonably safe value would be ripple of <50mVpp from DC to 3 MHz.", 14 AGND "Analog system ground", 15 GND "Analog system ground (Chassis GND)", 16 ECLK "Pull-up via 4.7K to 10K.(Conventional Autonomous mode)  CMOS signal, non-steered during clock correction.  ±0.1ppm or less (during correction) 19.2MHz", 17 AGND "Analog system ground", 18 GPIO "General Purpose Input Output", 19 AGND "Analog system ground", 20 1PPS "1 Pulse Per Second", 21 AGND "Analog system ground", 22 AGND "Analog system ground", 23 AGND "Analog system ground", 24 GND "Analog system ground (Chassis GND)", 25 TIMESYNC "Pull-down via 4.7K to 10K.(Conventional Autonomous mode)  A timing pulse is triggered on the rising edge  – minimum 100 ns wide, maximum ~1 ms.", 26 AGND "Analog system ground", 27 WAKE_UP "This Pin is not available now. Pull-down via 4.7K to 10K.", 28 AGND "Analog system ground", 29 AGND "Analog system ground", 30 TXA "Serial Port From GPS To Host. 2.85V CMOS Level", 31 RXA "Serial Port From Host To GPS. CMOS Level", 32 RXB "Auxiliary Serial UART interface, unused (only debugging)", 33 GND "Analog system ground (Chassis GND)", 34 TXB "Auxiliary Serial UART interface, unused (only debugging)", 35 AGND "Analog system ground", 36 AGND "Analog system ground"

## GPS_AT818
designator *
footprint GPS_AT818 (AT818 GPS模块)
pins: 1 RXB "裸焊盘", 2 TXB "裸焊盘", 3 PPS "裸焊盘", 4 TXA "裸焊盘", 5 RXA "裸焊盘", 6 NC "裸焊盘", 7 GPIO0 "裸焊盘", 8 GPIO1 "裸焊盘", 9 RF_PWR "裸焊盘", 10 ON_OFF "裸焊盘", 11 V_RTC "裸焊盘", 12 VCC "裸焊盘", 13 GPIO13 "裸焊盘", 14 GPIO14 "裸焊盘", 15 GPIO15 "裸焊盘", 16 BOOTSET "裸焊盘", 17 VCC_RF "裸焊盘", 18 GND "裸焊盘", 19 RF_IN "裸焊盘", 20 GND "裸焊盘", 21 GND "裸焊盘", 22 GND "裸焊盘"

## GPS_AT818 & GPM100
designator GPS?, comment AT818 & GPM100
复用GPS模块
footprint GPS_AT818 (AT818 GPS模块)
pins: 1 RXB "裸焊盘", 2 TXB "裸焊盘", 3 PPS "裸焊盘", 4 TXA "裸焊盘", 5 RXA "裸焊盘", 6 NC "裸焊盘", 7 NC/GPIO0 "裸焊盘", 8 RESET/GPIO1 "裸焊盘", 9 NC/RF_PWR "裸焊盘", 10 WAKE/ON_OFF "裸焊盘", 11 VBAT/V_RTC "裸焊盘", 12 VCC "裸焊盘", 13 GPIO8/GPIO13 "裸焊盘", 14 GPIO7/GPIO14 "裸焊盘", 15 GPIO3/GPIO15 "裸焊盘", 16 BOOTSEL/BOOTSET "裸焊盘", 17 VOUT/VCC_RF "裸焊盘", 18 GND "裸焊盘", 19 RF_IN "裸焊盘", 20 GND "裸焊盘", 21 GND "裸焊盘", 22 GND "裸焊盘"
text: GPM100 V1 / AT818

## GPS_AT919
designator GPS?, comment AT919 V1.6
GPS模块
footprint GPS_AT919 (AT919 GPS)
pins: 1 ANT "裸焊盘", 2 AGND "裸焊盘", 3 AGND "裸焊盘", 4 AGND "裸焊盘", 5 DC1.5V "裸焊盘", 6 GND "裸焊盘", 7 B/S "裸焊盘", 8 AGND "裸焊盘", 9 AGND "裸焊盘", 10 AGND "裸焊盘", 11 VDD "裸焊盘", 12 AGND "裸焊盘", 13 RESET "裸焊盘", 14 AGND "裸焊盘", 15 GND "裸焊盘", 16 ECLK "裸焊盘", 17 AGND "裸焊盘", 18 GPIO1 "裸焊盘", 19 AGND "裸焊盘", 20 TIMEMARK "裸焊盘", 21 AGND "裸焊盘", 22 AGND "裸焊盘", 23 AGND "裸焊盘", 24 GND "裸焊盘", 25 TIMESYNC "裸焊盘", 26 AGND "裸焊盘", 27 WAKE_UP "裸焊盘", 28 AGND "裸焊盘", 29 AGND "裸焊盘", 30 TX0 "裸焊盘", 31 RX0 "裸焊盘", 32 RX1 "裸焊盘", 33 GND "裸焊盘", 34 TX1 "裸焊盘", 35 AGND "裸焊盘", 36 AGND "裸焊盘"

## GPS_GPM100
designator GPS?
GPS模块
footprint GPS_GPM100-V1 (GPS模块, GPM100 V1)
pins: 1 RXB "裸焊盘", 2 TXB "裸焊盘", 3 PPS "裸焊盘", 4 TXA "裸焊盘", 5 RXA "裸焊盘", 6 NC "裸焊盘", 7 NC "裸焊盘", 8 RESET "裸焊盘", 9 NC "裸焊盘", 10 WAKE "裸焊盘", 11 VBAT "裸焊盘", 12 VCC "裸焊盘", 13 GPIO8 "裸焊盘", 14 GPIO7 "裸焊盘", 15 GPIO3 "裸焊盘", 16 BOOTSEL "裸焊盘", 17 VOUT "裸焊盘", 18 GND "裸焊盘", 19 RFIN "裸焊盘", 20 GND "裸焊盘", 21 GND "裸焊盘", 22 GND "裸焊盘"

## GSM/CDMA-MG323
designator M?, comment MG323
华为GPRS/GSM CDMS模块
footprint DF12E-50DP-0.5V(81) (华为GPRS/GSM模块接口底板座)
pins: 1 SIM_CLK, 2 INTEAR_N, 3 VSIM, 4 INTEAR_P, 5 SIM_DATA, 6 EXTEAR_P, 7 SIM_RST, 8 EXTEAR_N, 9 NC, 10 INTMIC_N, 11 GND, 12 INTMIC_P, 13 NC, 14 EXTMIC_P, 15 NC, 16 EXTMIC_N, 17 NC, 18 GND, 19 NC, 20 TERM_ON, 21 NC, 22 RESET, 23 BATT_THREM, 24 UART1_DCD, 25 LED_STATUS, 26 NC, 27 NC, 28 UART1_CTS, 29 UART1_RD, 30 NC, 31 NC, 32 UART1_DTR, 33 UART1_TD, 34 UART1_RTS, 35 VCOIN, 36 UART1_DSR, 37 CHARGE_POWER, 38 UART1_RING, 39 NC, 40 VIO, 41 GND, 42 VBAT, 43 GND, 44 VBAT, 45 GND, 46 VBAT, 47 GND, 48 VBAT, 49 GND, 50 VBAT

## HHW-BT10-04
designator M?, comment BT10-04
蓝牙模块
footprint BT10-04 (蓝牙模块 www.sz-hhw.com)
pins: 1 UART_TX, 2 UART_RX, 3 UART_CTS, 4 UART_RTS, 5 PCM_CLK, 6 PCM_OUT, 7 PCM_IN, 8 PCM_SYNC, 9 AIO0, 10 AIO1, 11 RESET#, 12 VDD, 13 GND, 14 NC, 15 USB_DN, 16 SPI_CSB, 17 SPI_MOSI, 18 SPI_MISO, 19 SPI_CLK, 20 USB_DP, 21 GND, 22 GND, 23 PIO0, 24 PIO1, 25 PIO2, 26 PIO3, 27 PIO4, 28 PIO5, 29 PIO6, 30 PIO7, 31 PIO8, 32 PIO9, 33 PIO10, 34 PIO11

## HHW-BT10-04_1
designator M?, comment BT10-04
蓝牙模块
footprint BT10-04 (蓝牙模块 www.sz-hhw.com)
pins: 1 UART_TX, 2 UART_RX, 3 UART_CTS, 4 UART_RTS, 11 RESET#, 12 VDD, 13 GND, 16 SPI_CSB, 17 SPI_MOSI, 18 SPI_MISO, 19 SPI_CLK, 21 GND, 22 GND

## HM62256BLFP
designator U?, comment HM62256BLFP-7
256KB RAM
footprint SOP127P1207-28N (Footprint not found)
pins: 1 A14, 2 A12, 3 A7, 4 A6, 5 A5, 6 A4, 7 A3, 8 A2, 9 A1, 10 A0, 11 D0, 12 D1, 13 D2, 14 GND, 15 D3, 16 D4, 17 D5, 18 D6, 19 D7, 20 ~{CE}, 21 A10, 22 ~{OE}, 23 A11, 24 A9, 25 A8, 26 A13, 27 ~{WE}, 28 VCC

## HT46R22
designator U?
footprint DIP-24 (Footprint not found)
pins: 1 PB5/AN5, 2 PB4/AN4, 3 PA3/PFD, 4 PA2, 5 PA1, 6 PA0, 7 PB3/AN3, 8 PB2/AN2, 9 PB1/AN1, 10 PB0/AN0, 11 VSS, 12 PC0, 13 PC1, 14 PD0/PWM, 15 RES, 16 VDD, 17 OSC1, 18 OSC2, 19 PA7/SCL, 20 PA6/SDA, 21 PA5/INT, 22 PA4/TMR, 23 PB7/AN7, 24 PB6/AN6

## HT7136
designator U?, comment HT7136A
footprint TO-92A
pins: 1 GND, 2 Vin, 3 Vout